# Altium schematic symbol library AliPadash.SchLib: 1117 symbols (part 1 of 6)
Pins are listed as number, name and electrical type; pins without a type are passive.

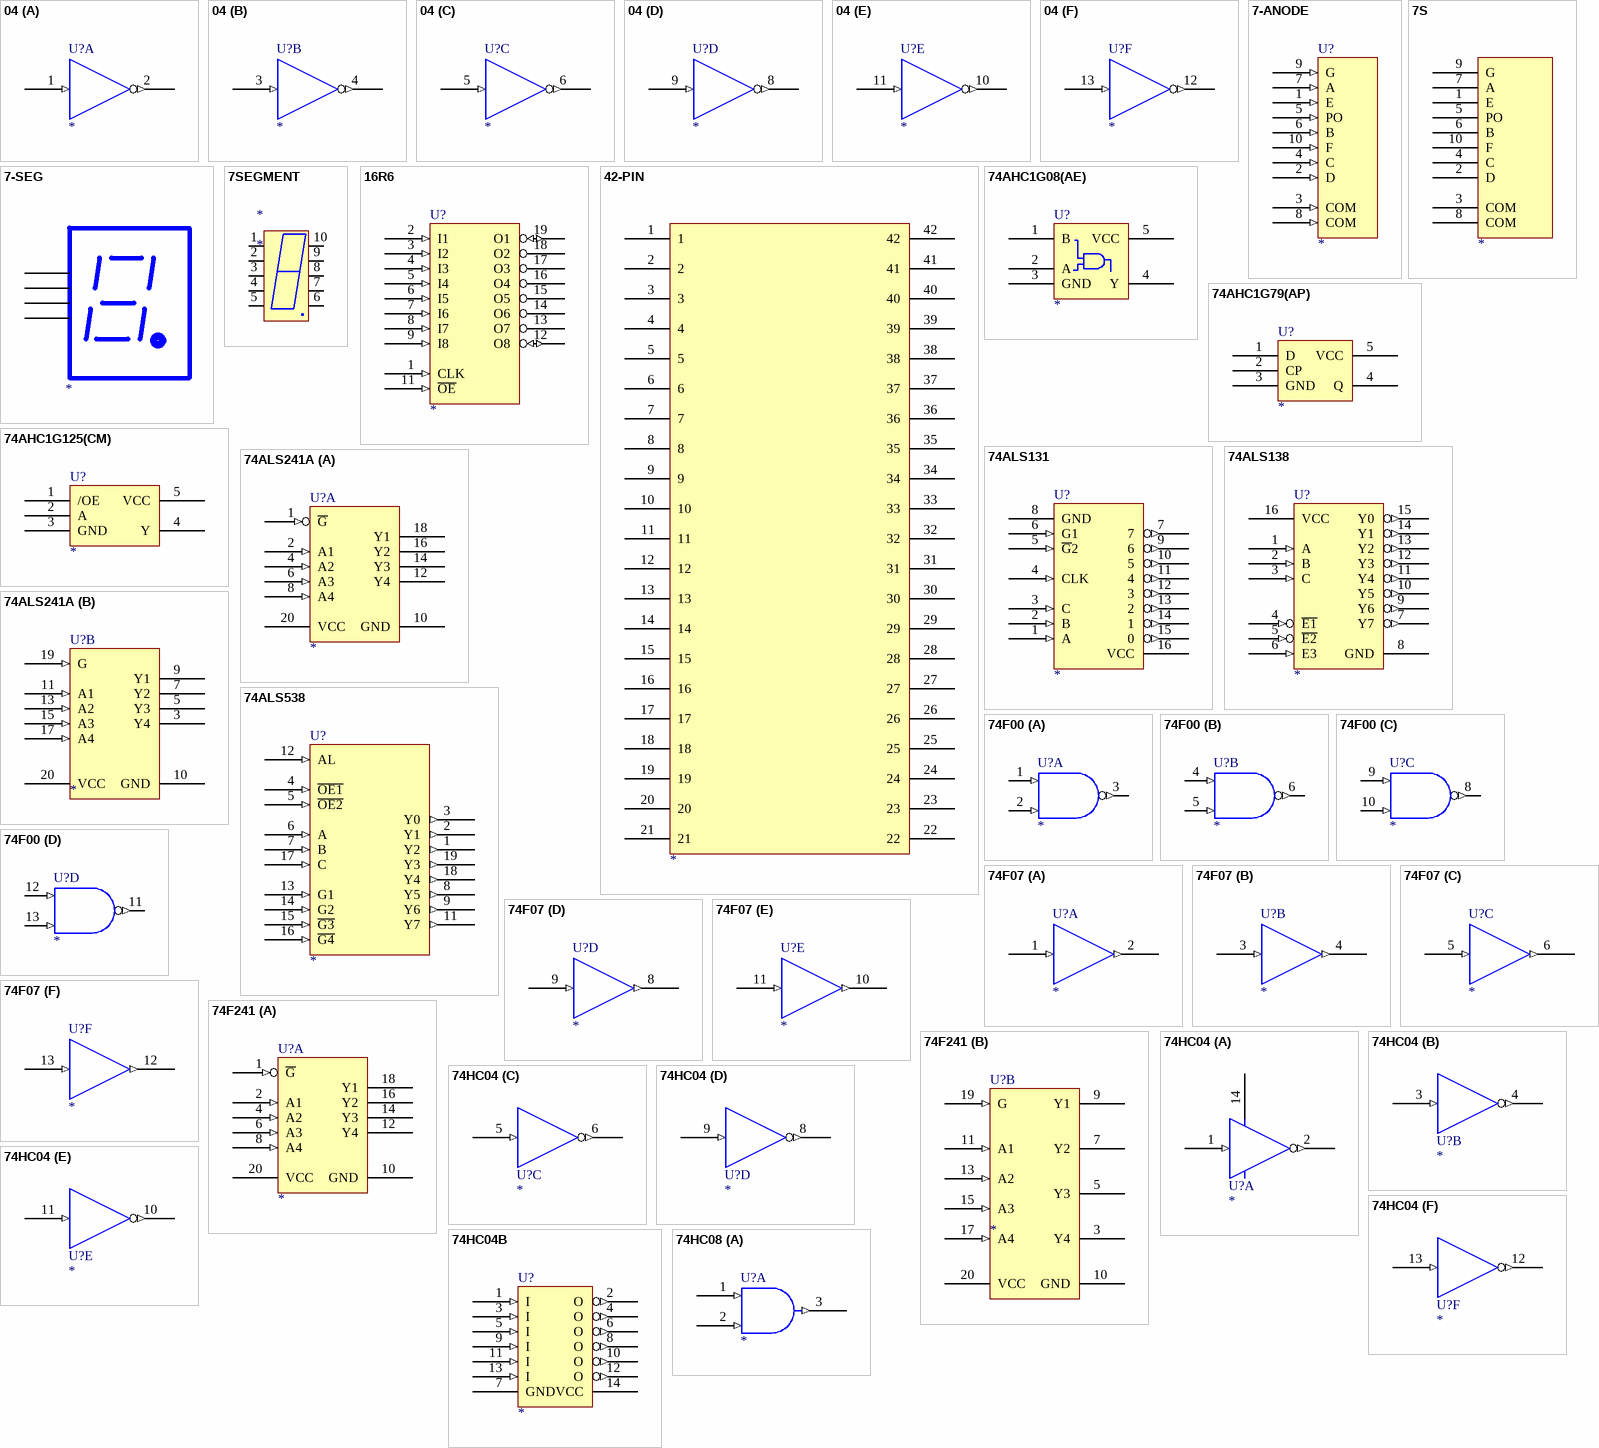
[diagram p0: symbols 04 to 74HC08]

## 04
designator U?
footprint SO-14
footprint DIP14
part A pins: 1 I (in), 2 O (out), 7 GND (power) hidden to GND, 14 VCC (power) hidden to VCC
part B pins: 3 I (in), 4 O (out), 7 GND (power) hidden to GND, 14 VCC (power) hidden to VCC
part C pins: 5 I (in), 6 O (out), 7 GND (power) hidden to GND, 14 VCC (power) hidden to VCC
part D pins: 7 GND (power) hidden to GND, 8 O (out), 9 I (in), 14 VCC (power) hidden to VCC
part E pins: 7 GND (power) hidden to GND, 10 O (out), 11 I (in), 14 VCC (power) hidden to VCC
part F pins: 7 GND (power) hidden to GND, 12 O (out), 13 I (in), 14 VCC (power) hidden to VCC
1 alternate drawing of the same symbol

## 7-ANODE
designator U?
pins: 1 E (in), 2 D (in), 3 COM (in), 4 C (in), 5 PO (in), 6 B (in), 7 A (in), 8 COM (in), 9 G (in), 10 F (in)

## 7-SEG
designator ?
pins: ?1, ?2, ?3, ?4

## 7S
designator ?
SS?
pins: 1 E, 2 D, 3 COM, 4 C, 5 PO, 6 B, 7 A, 8 COM, 9 G, 10 F

## 7SEGMENT
designator *
footprint 7SEGMENT
pins: 1, 2, 3, 4, 5, 6, 7, 8, 9, 10

## 16R6
designator U?
footprint DIP20
pins: 1 CLK (in), 2 I1 (in), 3 I2 (in), 4 I3 (in), 5 I4 (in), 6 I5 (in), 7 I6 (in), 8 I7 (in), 9 I8 (in), 10 GND (power) hidden to GND, 11 ~{OE} (in), 12 O8 (io), 13 O7 (hiz), 14 O6 (hiz), 15 O5 (hiz), 16 O4 (hiz), 17 O3 (hiz), 18 O2 (hiz), 19 O1 (io), 20 VCC (power) hidden to VCC

## 42-PIN
designator ?
pins: 1, 2, 3, 4, 5, 6, 7, 8, 9, 10, 11, 12, 13, 14, 15, 16, 17, 18, 19, 20, 21, 22, 23, 24, 25, 26, 27, 28, 29, 30, 31, 32, 33, 34, 35, 36, 37, 38, 39, 40, 41, 42

## 74AHC1G08(AE)
designator U?
footprint SOT353
pins: 1 B, 2 A, 3 GND, 4 Y, 5 VCC

## 74AHC1G79(AP)
designator U?
footprint SOT353
pins: 1 D, 2 CP, 3 GND, 4 Q, 5 VCC

## 74AHC1G125(CM)
designator U?
footprint SOT353
pins: 1 /OE, 2 A, 3 GND, 4 Y, 5 VCC

## 74ALS131
designator U?
footprint DIP16
pins: 1 A (in), 2 B (in), 3 C (in), 4 CLK (in), 5 ~{G}2 (in), 6 G1 (in), 7 (out), 8 GND (power), 9 6 (out), 10 5 (out), 11 4 (out), 12 3 (out), 13 2 (out), 14 1 (out), 15 0 (out), 16 VCC (power)

## 74ALS138
designator U?
footprint DIP16
pins: 1 A (in), 2 B (in), 3 C (in), 4 ~{E1} (in), 5 ~{E2} (in), 6 E3 (in), 7 Y7 (out), 8 GND (power), 9 Y6 (out), 10 Y5 (out), 11 Y4 (out), 12 Y3 (out), 13 Y2 (out), 14 Y1 (out), 15 Y0 (out), 16 VCC (power)

## 74ALS241A
designator U?
OCTAL BUF AND LIN DRV 3SO
footprint DIP20
footprint SOICW20
part A pins: 1 ~{G} (in), 2 A1 (in), 4 A2 (in), 6 A3 (in), 8 A4 (in), 10 GND (power), 12 Y4 (hiz), 14 Y3 (hiz), 16 Y2 (hiz), 18 Y1 (hiz), 20 VCC (power)
part B pins: 3 Y4 (hiz), 5 Y3 (hiz), 7 Y2 (hiz), 9 Y1 (hiz), 10 GND (power), 11 A1 (in), 13 A2 (in), 15 A3 (in), 17 A4 (in), 19 G (in), 20 VCC (power)
1 alternate drawing of the same symbol

## 74ALS538
designator U?
footprint DIP20
pins: 1 Y2 (out), 2 Y1 (out), 3 Y0 (out), 4 ~{OE1} (in), 5 ~{OE2} (in), 6 A (in), 7 B (in), 8 Y5 (out), 9 Y6 (out), 10 GND (power) hidden to GND, 11 Y7 (out), 12 AL (in), 13 G1 (in), 14 G2 (in), 15 ~{G3} (in), 16 ~{G4} (in), 17 C (in), 18 Y4 (out), 19 Y3 (out), 20 VCC (power) hidden to VCC

## 74F00
designator U?
Quad 2-Input Positive-NAND Gate
footprint DIP-14
simulation model 74F00 (SIMCODE)
part A pins: 1 A (in), 2 B (in), 3 Y (out), 7 GND (power) hidden to GND, 14 VCC (power) hidden to VCC
part B pins: 4 A (in), 5 B (in), 6 Y (out), 7 GND (power) hidden to GND, 14 VCC (power) hidden to VCC
part C pins: 7 GND (power) hidden to GND, 8 Y (out), 9 A (in), 10 B (in), 14 VCC (power) hidden to VCC
part D pins: 7 GND (power) hidden to GND, 11 Y (out), 12 A (in), 13 B (in), 14 VCC (power) hidden to VCC
1 alternate drawing of the same symbol

## 74F07
designator U?
footprint SO-14
part A pins: 1 I (in), 2 O (out), 7 GND hidden to GND, 14 VCC hidden to VCC
part B pins: 3 I (in), 4 O (out), 7 GND hidden to GND, 14 VCC hidden to VCC
part C pins: 5 I (in), 6 O (out), 7 GND hidden to GND, 14 VCC hidden to VCC
part D pins: 7 GND hidden to GND, 8 O (out), 9 I (in), 14 VCC hidden to VCC
part E pins: 7 GND hidden to GND, 10 O (out), 11 I (in), 14 VCC hidden to VCC
part F pins: 7 GND hidden to GND, 12 O (out), 13 I (in), 14 VCC hidden to VCC

## 74F241
designator U?
OCTAL BUF AND LIN DRV 3SO
footprint SOICW20
footprint DIP20
part A pins: 1 ~{G} (in), 2 A1 (in), 4 A2 (in), 6 A3 (in), 8 A4 (in), 10 GND (power), 12 Y4 (hiz), 14 Y3 (hiz), 16 Y2 (hiz), 18 Y1 (hiz), 20 VCC (power)
part B pins: 3 Y4 (hiz), 5 Y3 (hiz), 7 Y2 (hiz), 9 Y1 (hiz), 10 GND (power), 11 A1 (in), 13 A2 (in), 15 A3 (in), 17 A4 (in), 19 G (in), 20 VCC (power)
1 alternate drawing of the same symbol

## 74HC04
designator U?
footprint DIP14
part A pins: 1 I (in), 2 O (out), 7 GND (power) hidden to GND, 14 VCC (power)
part B pins: 3 I (in), 4 O (out), 7 GND (power) hidden to GND, 14 VCC (power) hidden to VCC
part C pins: 5 I (in), 6 O (out), 7 GND (power) hidden to GND, 14 VCC (power) hidden to VCC
part D pins: 7 GND (power) hidden to GND, 8 O (out), 9 I (in), 14 VCC (power) hidden to VCC
part E pins: 7 GND (power) hidden to GND, 10 O (out), 11 I (in), 14 VCC (power) hidden to VCC
part F pins: 7 GND (power) hidden to GND, 12 O (out), 13 I (in), 14 VCC (power) hidden to VCC
1 alternate drawing of the same symbol

## 74HC04B
designator U?
footprint SO-14
pins: 1 I (in), 2 O (out), 3 I (in), 4 O (out), 5 I (in), 6 O (out), 7 GND (power), 8 O (out), 9 I (in), 10 O (out), 11 I (in), 12 O (out), 13 I (in), 14 VCC (power)
1 alternate drawing of the same symbol

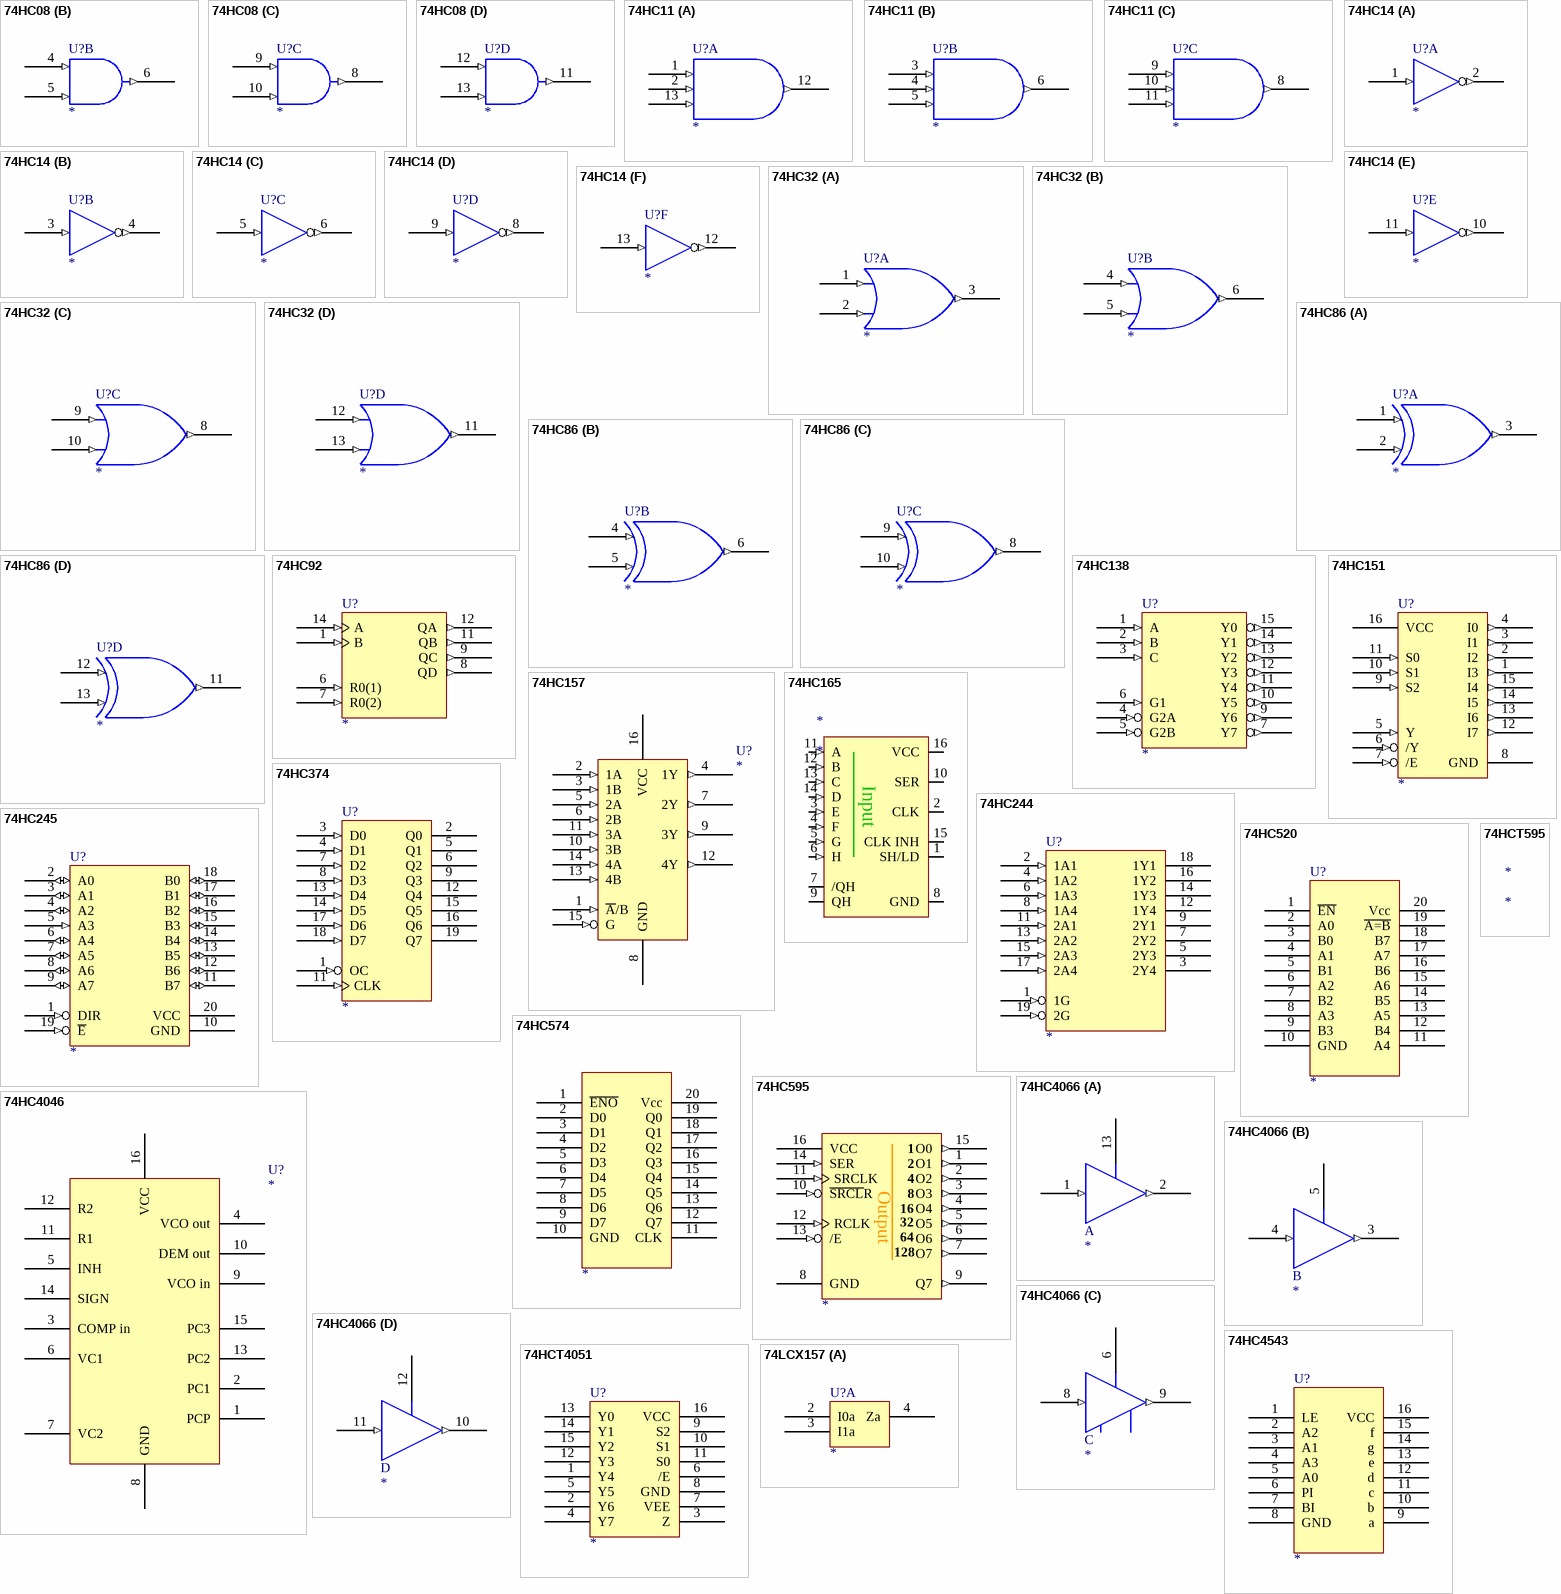
[diagram p1: symbols 74HC08 to 74LCX157]

## 74HC08
designator U?
part A pins: 1 I0 (in), 2 I1 (in), 3 O (out), 7 GND (power) hidden to GND, 14 VCC (power) hidden to VCC
part B pins: 4 I0 (in), 5 I1 (in), 6 O (out), 7 GND (power) hidden to GND, 14 VCC (power) hidden to VCC
part C pins: 7 GND (power) hidden to GND, 8 O (out), 9 I0 (in), 10 I1 (in), 14 VCC (power) hidden to VCC
part D pins: 7 GND (power) hidden to GND, 11 O (out), 12 I0 (in), 13 I1 (in), 14 VCC (power) hidden to VCC
1 alternate drawing of the same symbol

## 74HC11
designator U?
part A pins: 1 I0 (in), 2 I1 (in), 7 GND (power) hidden to GND, 12 O (out), 13 I2 (in), 14 VCC (power) hidden to VCC
part B pins: 3 I0 (in), 4 I1 (in), 5 I2 (in), 6 O (out), 7 GND (power) hidden to GND, 14 VCC (power) hidden to VCC
part C pins: 7 GND (power) hidden to GND, 8 O (out), 9 I0 (in), 10 I1 (in), 11 I2 (in), 14 VCC (power) hidden to VCC
1 alternate drawing of the same symbol

## 74HC14
designator U?
footprint DIP14
part A pins: 1 I (in), 2 O (out), 7 GND (power) hidden to GND, 14 VCC (power) hidden to VCC
part B pins: 3 I (in), 4 O (out), 7 GND (power) hidden to GND, 14 VCC (power) hidden to VCC
part C pins: 5 I (in), 6 O (out), 7 GND (power) hidden to GND, 14 VCC (power) hidden to VCC
part D pins: 7 GND (power) hidden to GND, 8 O (out), 9 I (in), 14 VCC (power) hidden to VCC
part E pins: 7 GND (power) hidden to GND, 10 O (out), 11 I (in), 14 VCC (power) hidden to VCC
part F pins: 7 GND (power) hidden to GND, 12 O (out), 13 I (in), 14 VCC (power) hidden to VCC
1 alternate drawing of the same symbol

## 74HC32
designator U?
part A pins: 1 I0 (in), 2 I1 (in), 3 O (out), 7 GND (power) hidden to GND, 14 VCC (power) hidden to VCC
part B pins: 4 I0 (in), 5 I1 (in), 6 O (out), 7 GND (power) hidden to GND, 14 VCC (power) hidden to VCC
part C pins: 7 GND (power) hidden to GND, 8 O (out), 9 I0 (in), 10 I1 (in), 14 VCC (power) hidden to VCC
part D pins: 7 GND (power) hidden to GND, 11 O (out), 12 I0 (in), 13 I1 (in), 14 VCC (power) hidden to VCC
1 alternate drawing of the same symbol

## 74HC86
designator U?
part A pins: 1 I0 (in), 2 I1 (in), 3 O (out), 7 GND (power) hidden to GND, 14 VCC (power) hidden to VCC
part B pins: 4 I0 (in), 5 I1 (in), 6 O (out), 7 GND (power) hidden to GND, 14 VCC (power) hidden to VCC
part C pins: 7 GND (power) hidden to GND, 8 O (out), 9 I0 (in), 10 I1 (in), 14 VCC (power) hidden to VCC
part D pins: 7 GND (power) hidden to GND, 11 O (out), 12 I0 (in), 13 I1 (in), 14 VCC (power) hidden to VCC
1 alternate drawing of the same symbol

## 74HC92
designator U?
pins: 1 B (in), 5 VCC (power) hidden to VCC, 6 R0(1) (in), 7 R0(2) (in), 8 QD (out), 9 QC (out), 10 GND (power) hidden to GND, 11 QB (out), 12 QA (out), 14 A (in)

## 74HC138
designator U?
pins: 1 A (in), 2 B (in), 3 C (in), 4 G2A (in), 5 G2B (in), 6 G1 (in), 7 Y7 (out), 8 GND (power) hidden to GND, 9 Y6 (out), 10 Y5 (out), 11 Y4 (out), 12 Y3 (out), 13 Y2 (out), 14 Y1 (out), 15 Y0 (out), 16 VCC (power) hidden to VCC

## 74HC151
designator U?
footprint SO-16
pins: 1 I3 (out), 2 I2 (out), 3 I1 (out), 4 I0 (out), 5 Y (in), 6 /Y (in), 7 /E (in), 8 GND (power), 9 S2 (in), 10 S1 (in), 11 S0 (in), 12 I7 (out), 13 I6 (out), 14 I5 (out), 15 I4 (out), 16 VCC (power)

## 74HC157
designator U?
pins: 1 ~{A}/B (in), 2 1A (in), 3 1B (in), 4 1Y (out), 5 2A (in), 6 2B (in), 7 2Y (out), 8 GND (power), 9 3Y (out), 10 3B (in), 11 3A (in), 12 4Y (out), 13 4B (in), 14 4A (in), 15 G (in), 16 VCC (power)

## 74HC165
designator *
footprint SO-16
pins: 1 SH/LD, 2 CLK, 3 E (in), 4 F (in), 5 G (in), 6 H (in), 7 /QH, 8 GND, 9 QH, 10 SER, 11 A (in), 12 B (in), 13 C (in), 14 D (in), 15 CLK INH, 16 VCC
text: Input

## 74HC244
designator U?
pins: 1 1G (in), 2 1A1 (in), 3 2Y4 (hiz), 4 1A2 (in), 5 2Y3 (hiz), 6 1A3 (in), 7 2Y2 (hiz), 8 1A4 (in), 9 2Y1 (hiz), 10 GND (power) hidden to GND, 11 2A1 (in), 12 1Y4 (hiz), 13 2A2 (in), 14 1Y3 (hiz), 15 2A3 (in), 16 1Y2 (hiz), 17 2A4 (in), 18 1Y1 (hiz), 19 2G (in), 20 VCC (power) hidden to VCC

## 74HC245
designator U?
pins: 1 DIR (in), 2 A0 (io), 3 A1 (io), 4 A2 (io), 5 A3 (in), 6 A4 (io), 7 A5 (io), 8 A6 (io), 9 A7 (io), 10 GND, 11 B7 (io), 12 B6 (io), 13 B5 (io), 14 B4 (io), 15 B3 (io), 16 B2 (io), 17 B1 (io), 18 B0 (io), 19 ~{E} (in), 20 VCC

## 74HC374
designator U?
pins: 1 OC (in), 2 Q0 (hiz), 3 D0 (in), 4 D1 (in), 5 Q1 (hiz), 6 Q2 (hiz), 7 D2 (in), 8 D3 (in), 9 Q3 (hiz), 10 GND (power) hidden to GND, 11 CLK (in), 12 Q4 (hiz), 13 D4 (in), 14 D5 (in), 15 Q5 (hiz), 16 Q6 (hiz), 17 D6 (in), 18 D7 (in), 19 Q7 (hiz), 20 VCC (power) hidden to VCC

## 74HC520
designator U?
pins: 1 ~{EN}, 2 A0, 3 B0, 4 A1, 5 B1, 6 A2, 7 B2, 8 A3, 9 B3, 10 GND, 11 A4, 12 B4, 13 A5, 14 B5, 15 A6, 16 B6, 17 A7, 18 B7, 19 ~{A=B}, 20 Vcc

## 74HC574
designator ?
pins: 1 ~{ENO}, 2 D0, 3 D1, 4 D2, 5 D3, 6 D4, 7 D5, 8 D6, 9 D7, 10 GND, 11 CLK, 12 Q7, 13 Q6, 14 Q5, 15 Q4, 16 Q3, 17 Q2, 18 Q1, 19 Q0, 20 Vcc

## 74HC595
designator ?
footprint so-16
pins: 1 O1 (out), 2 O2 (out), 3 O3 (out), 4 O4 (out), 5 O5 (out), 6 O6 (out), 7 O7 (out), 8 GND (power), 9 Q7 (out), 10 ~{SRCL}R (in), 11 SRCLK (in), 12 RCLK (in), 13 /E (in), 14 SER (in), 15 O0 (out), 16 VCC (power)
text: Output; 32; 64; 128

## 74HC4046
designator U?
footprint DIP16
pins: 1 PCP, 2 PC1, 3 COMP in, 4 VCO out, 5 INH, 6 VC1, 7 VC2, 8 GND (power), 9 VCO in, 10 DEM out, 11 R1, 12 R2, 13 PC2, 14 SIGN, 15 PC3, 16 VCC (power)

## 74HC4066
designator ?
part A pins: 1 I (in), 2 O (out), 7 GND hidden to GND, 13 X1, 14 VCC hidden to VCC
part B pins: 3 O (out), 4 I (in), 5, 7 GND hidden to GND, 14 VCC hidden to VCC
part C pins: 6, 7 hidden, 8 (in), 9 (out), 14 hidden
part D pins: 7 GND hidden to GND, 10 O (out), 11 I (in), 12, 14 VCC hidden to VCC

## 74HC4543
designator U?
pins: 1 LE, 2 A2, 3 A1, 4 A3, 5 A0, 6 PI, 7 BI, 8 GND (power), 9 a, 10 b, 11 c, 12 d, 13 e, 14 g, 15 f, 16 VCC (power)

## 74HCT595
designator *

## 74HCT4051
designator U?
footprint SO-16
pins: 1 Y4, 2 Y6, 3 Z, 4 Y7, 5 Y5, 6 /E, 7 VEE, 8 GND, 9 S2, 10 S1, 11 S0, 12 Y3, 13 Y0, 14 Y1, 15 Y2, 16 VCC

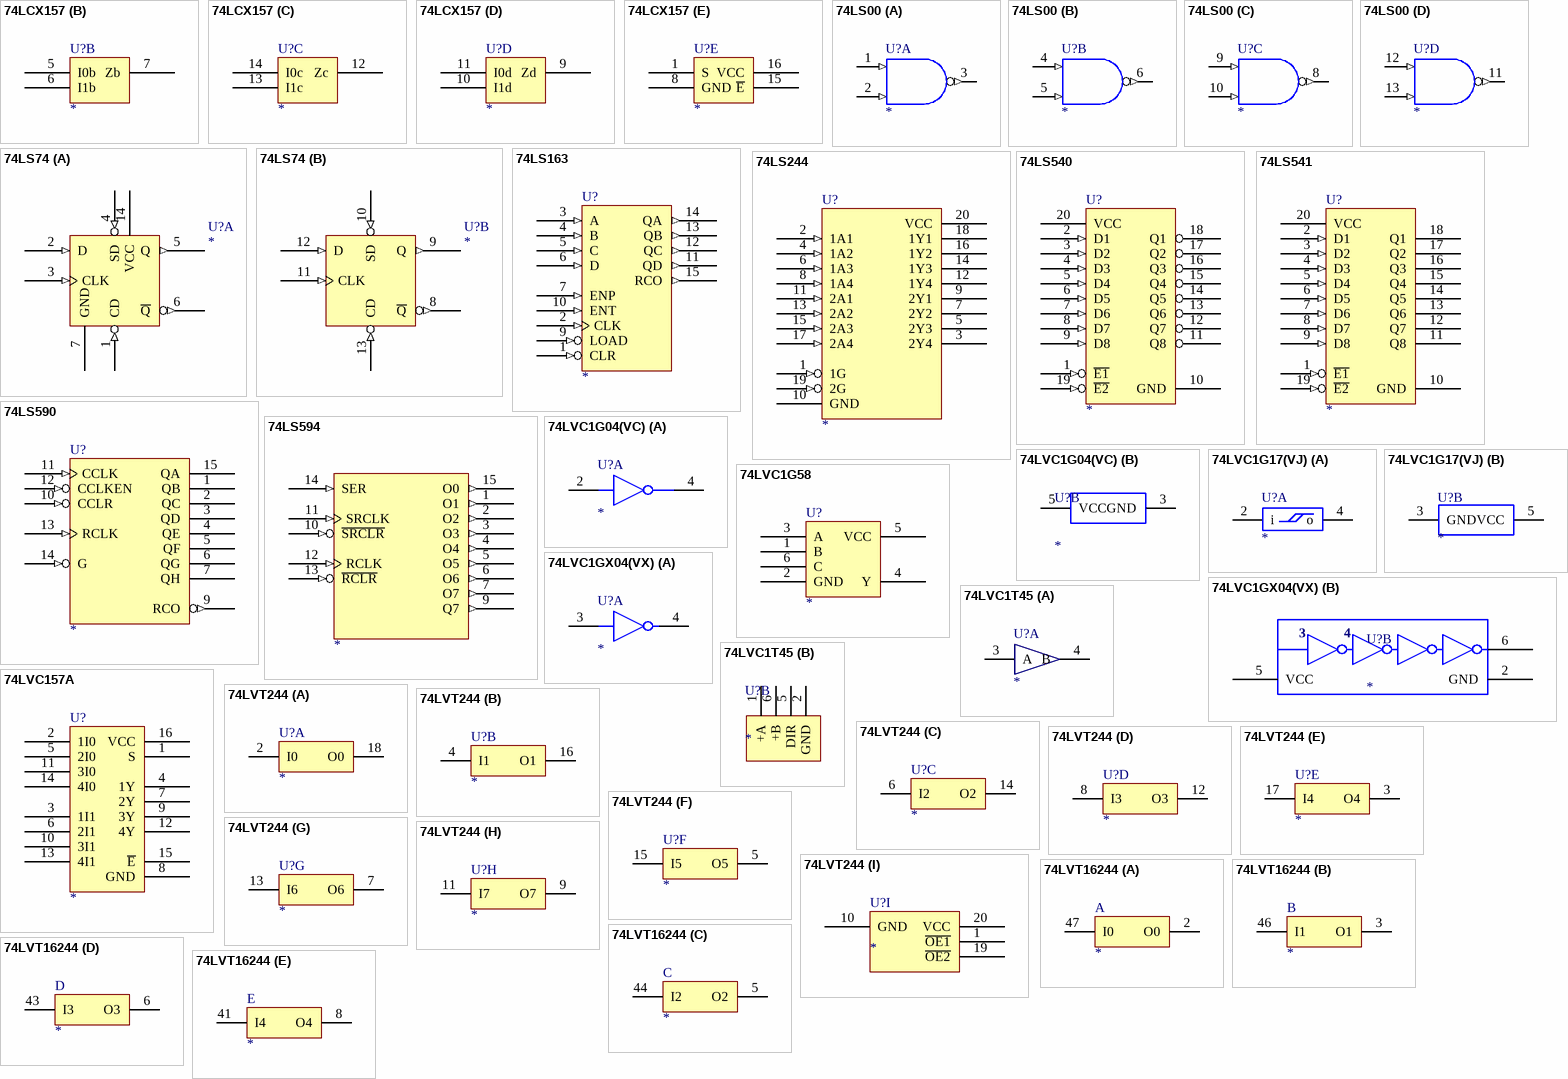
[diagram p2: symbols 74LCX157 to 74LVT16244]

## 74LCX157
designator U?
part A pins: 2 I0a, 3 I1a, 4 Za
part B pins: 5 I0b, 6 I1b, 7 Zb
part C pins: 12 Zc, 13 I1c, 14 I0c
part D pins: 9 Zd, 10 I1d, 11 I0d
part E pins: 1 S, 8 GND, 15 ~{E}, 16 VCC

## 74LS00
designator U?
Quad 2-Input Positive-NAND Gate
footprint DIP-14
simulation model 74LS00 (SIMCODE)
part A pins: 1 A (in), 2 B (in), 3 Y (out), 7 GND (power) hidden to GND, 14 VCC (power) hidden to VCC
part B pins: 4 A (in), 5 B (in), 6 Y (out), 7 GND (power) hidden to GND, 14 VCC (power) hidden to VCC
part C pins: 7 GND (power) hidden to GND, 8 Y (out), 9 A (in), 10 B (in), 14 VCC (power) hidden to VCC
part D pins: 7 GND (power) hidden to GND, 11 Y (out), 12 A (in), 13 B (in), 14 VCC (power) hidden to VCC
1 alternate drawing of the same symbol

## 74LS74
designator U?
footprint DIP14
part A pins: 1 CD (in), 2 D (in), 3 CLK (in), 4 SD (in), 5 Q (out), 6 ~{Q} (out), 7 GND (power), 14 VCC (power)
part B pins: 7 GND (power) hidden to GND, 8 ~{Q} (out), 9 Q (out), 10 SD (in), 11 CLK (in), 12 D (in), 13 CD (in), 14 VCC (power) hidden to VCC

## 74LS163
designator U?
pins: 1 CLR (in), 2 CLK (in), 3 A (in), 4 B (in), 5 C (in), 6 D (in), 7 ENP (in), 8 GND (power) hidden to GND, 9 LOAD (in), 10 ENT (in), 11 QD (out), 12 QC (out), 13 QB (out), 14 QA (out), 15 RCO (out), 16 VCC (power) hidden to VCC

## 74LS244
designator U?
footprint SO-20WB
pins: 1 1G (in), 2 1A1 (in), 3 2Y4 (hiz), 4 1A2 (in), 5 2Y3 (hiz), 6 1A3 (in), 7 2Y2 (hiz), 8 1A4 (in), 9 2Y1 (hiz), 10 GND (power), 11 2A1 (in), 12 1Y4 (hiz), 13 2A2 (in), 14 1Y3 (hiz), 15 2A3 (in), 16 1Y2 (hiz), 17 2A4 (in), 18 1Y1 (hiz), 19 2G (in), 20 VCC (power)

## 74LS540
designator U?
footprint DIP20
pins: 1 ~{E1} (in), 2 D1 (in), 3 D2 (in), 4 D3 (in), 5 D4 (in), 6 D5 (in), 7 D6 (in), 8 D7 (in), 9 D8 (in), 10 GND (power), 11 Q8 (hiz), 12 Q7 (hiz), 13 Q6 (hiz), 14 Q5 (hiz), 15 Q4 (hiz), 16 Q3 (hiz), 17 Q2 (hiz), 18 Q1 (hiz), 19 ~{E2} (in), 20 VCC (power)

## 74LS541
designator U?
footprint DIP20
pins: 1 ~{E1} (in), 2 D1 (in), 3 D2 (in), 4 D3 (in), 5 D4 (in), 6 D5 (in), 7 D6 (in), 8 D7 (in), 9 D8 (in), 10 GND (power), 11 Q8 (hiz), 12 Q7 (hiz), 13 Q6 (hiz), 14 Q5 (hiz), 15 Q4 (hiz), 16 Q3 (hiz), 17 Q2 (hiz), 18 Q1 (hiz), 19 ~{E2} (in), 20 VCC (power)

## 74LS590
designator U?
pins: 1 QB (hiz), 2 QC (hiz), 3 QD (hiz), 4 QE (hiz), 5 QF (hiz), 6 QG (hiz), 7 QH (hiz), 8 GND (power) hidden to GND, 9 RCO (out), 10 CCLR (in), 11 CCLK (in), 12 CCLKEN (in), 13 RCLK (in), 14 G (in), 15 QA (hiz), 16 VCC (power) hidden to VCC

## 74LS594
designator ?
pins: 1 O1 (out), 2 O2 (out), 3 O3 (out), 4 O4 (out), 5 O5 (out), 6 O6 (out), 7 O7 (out), 9 Q7 (out), 10 ~{SRCLR} (in), 11 SRCLK (in), 12 RCLK (in), 13 ~{RCLR} (in), 14 SER (in), 15 O0 (out)

## 74LVC1G04(VC)
designator U?
footprint SOT353
part A pins: 2, 4
part B pins: 3 GND, 5 VCC

## 74LVC1G17(VJ)
designator U?
footprint SOT353
part A pins: 2 i, 4 o
part B pins: 3 GND, 5 VCC

## 74LVC1G58
designator U?
footprint SOT363
pins: 1 B, 2 GND, 3 A, 4 Y, 5 VCC, 6 C

## 74LVC1GX04(VX)
designator U?
footprint SOT363
part A pins: 3, 4
part B pins: 2 GND, 5 VCC, 6

## 74LVC1T45
designator U?
footprint SOT363
part A pins: 3 A, 4 B
part B pins: 1 +A, 2 GND, 5 DIR, 6 +B

## 74LVC157A
designator U?
footprint SO-16
pins: 1 S, 2 1I0, 3 1I1, 4 1Y, 5 2I0, 6 2I1, 7 2Y, 8 GND, 9 3Y, 10 3I1, 11 3I0, 12 4Y, 13 4I1, 14 4I0, 15 ~{E}, 16 VCC

## 74LVT244
designator U?
footprint M20B
part A pins: 2 I0, 18 O0
part B pins: 4 I1, 16 O1
part C pins: 6 I2, 14 O2
part D pins: 8 I3, 12 O3
part E pins: 3 O4, 17 I4
part F pins: 5 O5, 15 I5
part G pins: 7 O6, 13 I6
part H pins: 9 O7, 11 I7
part I pins: 1 ~{OE1}, 10 GND, 19 ~{OE2}, 20 VCC

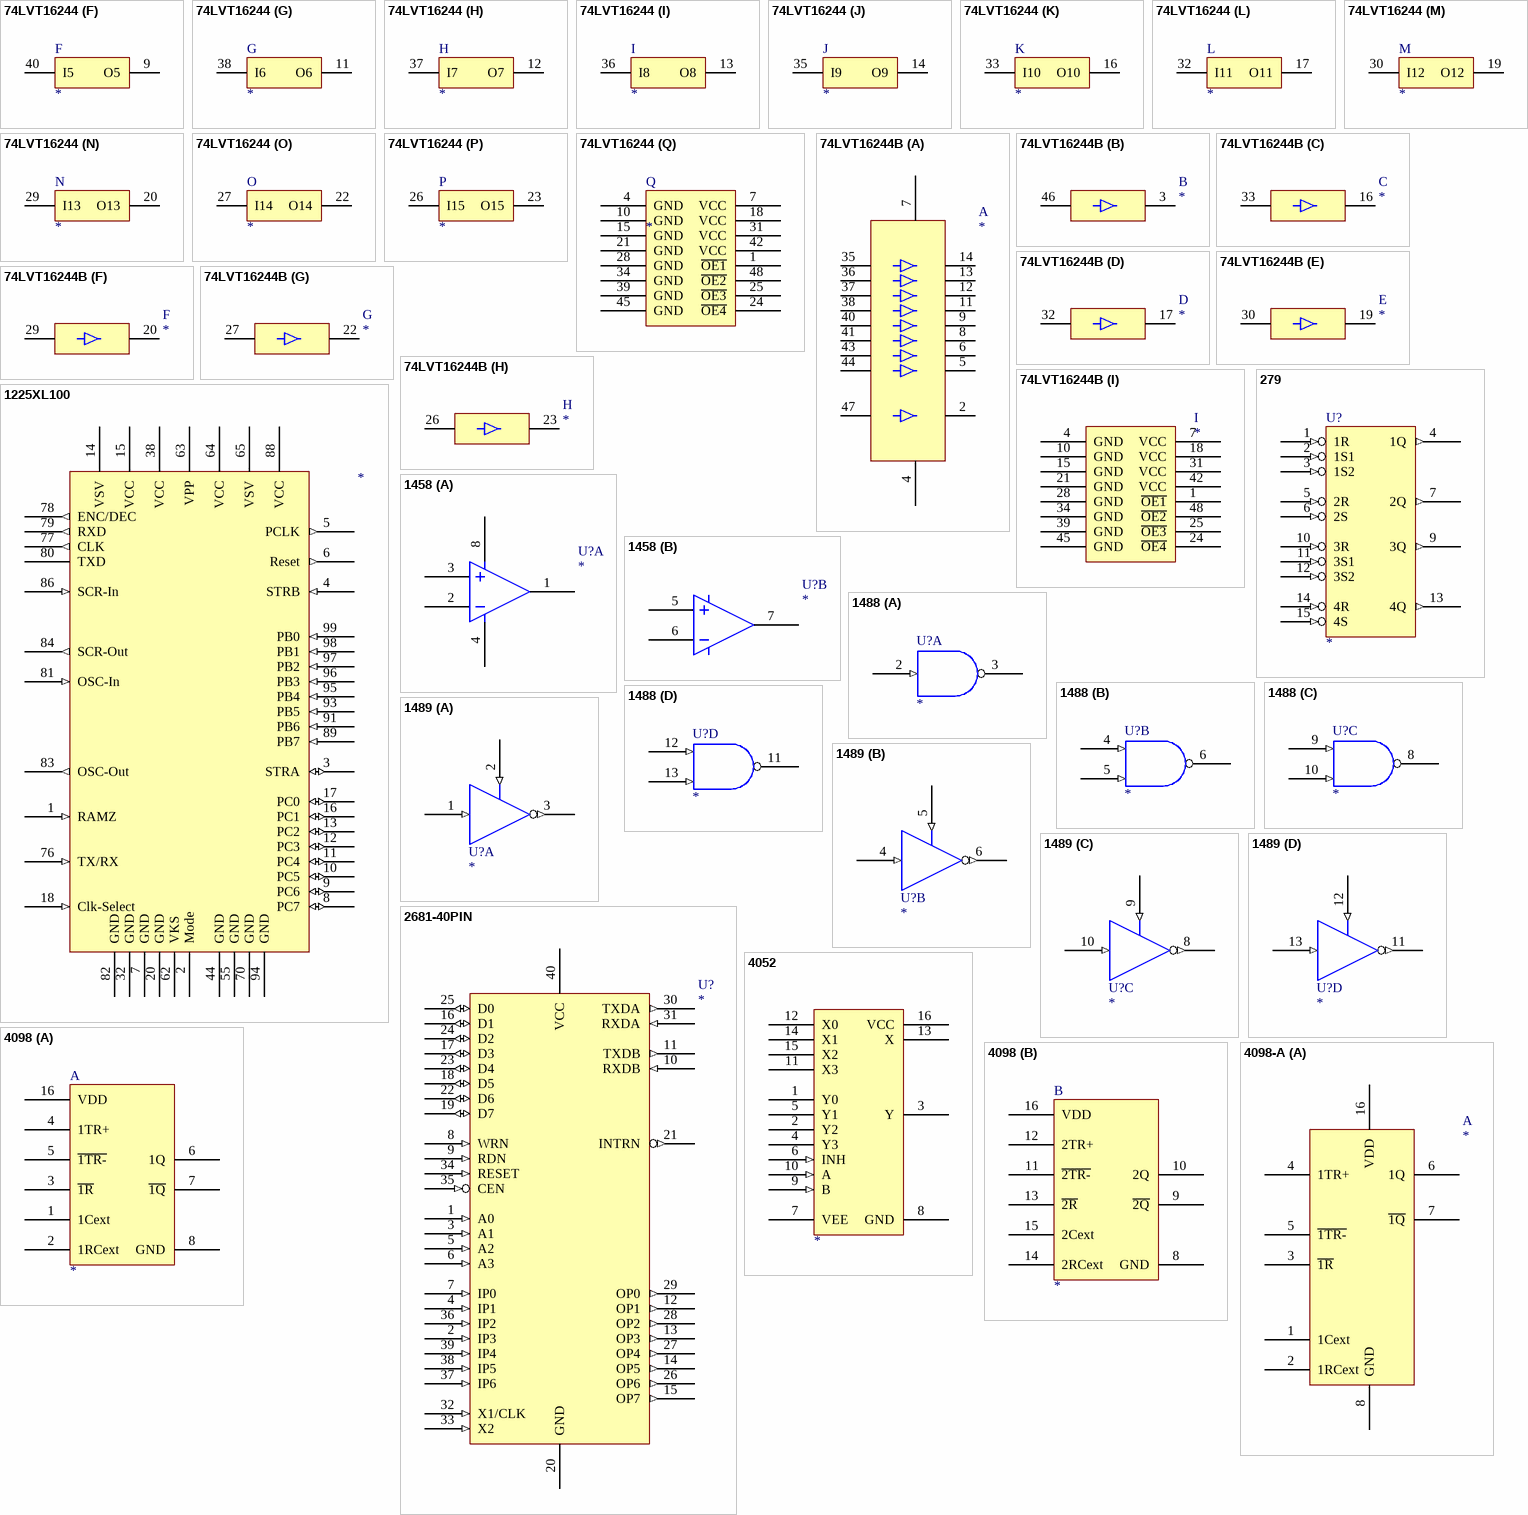
[diagram p3: symbols 74LVT16244 to 4098-A]

## 74LVT16244
designator ?
footprint MS48A
part A pins: 2 O0, 47 I0
part B pins: 3 O1, 46 I1
part C pins: 5 O2, 44 I2
part D pins: 6 O3, 43 I3
part E pins: 8 O4, 41 I4
part F pins: 9 O5, 40 I5
part G pins: 11 O6, 38 I6
part H pins: 12 O7, 37 I7
part I pins: 13 O8, 36 I8
part J pins: 14 O9, 35 I9
part K pins: 16 O10, 33 I10
part L pins: 17 O11, 32 I11
part M pins: 19 O12, 30 I12
part N pins: 20 O13, 29 I13
part O pins: 22 O14, 27 I14
part P pins: 23 O15, 26 I15
part Q pins: 1 ~{OE1}, 4 GND, 7 VCC, 10 GND, 15 GND, 18 VCC, 21 GND, 24 ~{OE4}, 25 ~{OE3}, 28 GND, 31 VCC, 34 GND, 39 GND, 42 VCC, 45 GND, 48 ~{OE2}

## 74LVT16244B
designator ?
footprint MS48A
part A pins: 2 O0, 4 GND, 5 O2, 6 O3, 7 VCC, 8 O4, 9 O5, 11 O6, 12 O7, 13 O8, 14 O9, 35 I9, 36 I8, 37 I7, 38 I6, 40 I5, 41 I4, 43 I3, 44 I2, 47 I0
part B pins: 3 O1, 46 I1
part C pins: 16 O10, 33 I10
part D pins: 17 O11, 32 I11
part E pins: 19 O12, 30 I12
part F pins: 20 O13, 29 I13
part G pins: 22 O14, 27 I14
part H pins: 23 O15, 26 I15
part I pins: 1 ~{OE1}, 4 GND, 7 VCC, 10 GND, 15 GND, 18 VCC, 21 GND, 24 ~{OE4}, 25 ~{OE3}, 28 GND, 31 VCC, 34 GND, 39 GND, 42 VCC, 45 GND, 48 ~{OE2}

## 279
designator U?
pins: 1 1R (in), 2 1S1 (in), 3 1S2 (in), 4 1Q (out), 5 2R (in), 6 2S (in), 7 2Q (out), 8 GND (power) hidden to GND, 9 3Q (out), 10 3R (in), 11 3S1 (in), 12 3S2 (in), 13 4Q (out), 14 4R (in), 15 4S (in), 16 VCC (power) hidden to VCC

## 1225XL100
designator ?
U?
pins: 1 RAMZ (in), 2 Mode (power), 3 STRA (io), 4 STRB (in), 5 PCLK (out), 6 Reset (out), 7 GND (power), 8 PC7 (io), 9 PC6 (io), 10 PC5 (io), 11 PC4 (io), 12 PC3 (io), 13 PC2 (io), 14 VSV (power), 15 VCC (power), 16 PC1 (io), 17 PC0 (io), 18 Clk-Select (in), 20 GND (power), 32 GND (power), 38 VCC (power), 44 GND (power), 55 GND (power), 62 VKS (power), 63 VPP (power), 64 VCC (power), 65 VSV (power), 70 GND (power), 76 TX/RX (in), 77 CLK (out), 78 ENC/DEC (out), 79 RXD (out), 80 TXD, 81 OSC-In (in), 82 GND (power), 83 OSC-Out (out), 84 SCR-Out (out), 86 SCR-In (in), 88 VCC (power), 89 PB7 (in), 91 PB6 (in), 93 PB5 (in), 94 GND (power), 95 PB4 (in), 96 PB3 (in), 97 PB2 (in), 98 PB1 (in), 99 PB0 (in)

## 1458
designator U?
footprint DIP8
footprint SO-8
part A pins: 1, 2, 3, 4, 8
part B pins: 5, 6, 7

## 1488
designator U?
footprint DIP14
part A pins: 1 V- (power) hidden to V-, 2 (in), 3 (oc), 7 GND (power) hidden to GND, 14 V+ (power) hidden to V+
part B pins: 1 V- (power) hidden to V-, 4 (in), 5 (in), 6 (oc), 7 GND (power) hidden to GND, 14 V+ (power) hidden to V+
part C pins: 1 V- (power) hidden to V-, 7 GND (power) hidden to GND, 8 (oc), 9 (in), 10 (in), 14 V+ (power) hidden to V+
part D pins: 1 V- (power) hidden to V-, 7 GND (power) hidden to GND, 11 (oc), 12 (in), 13 (in), 14 V+ (power) hidden to V+

## 1489
designator U?
footprint DIP14
part A pins: 1 I (in), 2 RC (in), 3 O (out), 7 GND (power) hidden to GND, 14 VCC (power) hidden to VCC
part B pins: 4 I (in), 5 RC (in), 6 O (out), 7 GND (power) hidden to GND, 14 VCC (power) hidden to VCC
part C pins: 7 GND (power) hidden to GND, 8 O (out), 9 RC (in), 10 I (in), 14 VCC (power) hidden to VCC
part D pins: 7 GND (power) hidden to GND, 11 O (out), 12 RC (in), 13 I (in), 14 VCC (power) hidden to VCC

## 2681-40PIN
designator U?
footprint DIP40
pins: 1 A0 (in), 2 IP3 (in), 3 A1 (in), 4 IP1 (in), 5 A2 (in), 6 A3 (in), 7 IP0 (in), 8 WRN (in), 9 RDN (in), 10 RXDB (in), 11 TXDB (out), 12 OP1 (out), 13 OP3 (out), 14 OP5 (out), 15 OP7 (out), 16 D1 (io), 17 D3 (io), 18 D5 (io), 19 D7 (io), 20 GND (power), 21 INTRN (out), 22 D6 (io), 23 D4 (io), 24 D2 (io), 25 D0 (io), 26 OP6 (out), 27 OP4 (out), 28 OP2 (out), 29 OP0 (out), 30 TXDA (out), 31 RXDA (in), 32 X1/CLK (in), 33 X2 (in), 34 RESET (in), 35 CEN (in), 36 IP2 (in), 37 IP6 (in), 38 IP5 (in), 39 IP4 (in), 40 VCC (power)

## 4052
designator ?
pins: 1 Y0, 2 Y2, 3 Y, 4 Y3, 5 Y1, 6 INH (in), 7 VEE, 8 GND (power), 9 B (in), 10 A (in), 11 X3, 12 X0, 13 X, 14 X1, 15 X2, 16 VCC (power)

## 4098
designator ?
part A pins: 1 1Cext, 2 1RCext, 3 ~{1R}, 4 1TR+, 5 ~{1TR-}, 6 1Q, 7 ~{1Q}, 8 GND, 16 VDD
part B pins: 8 GND, 9 ~{2Q}, 10 2Q, 11 ~{2TR-}, 12 2TR+, 13 ~{2R}, 14 2RCext, 15 2Cext, 16 VDD

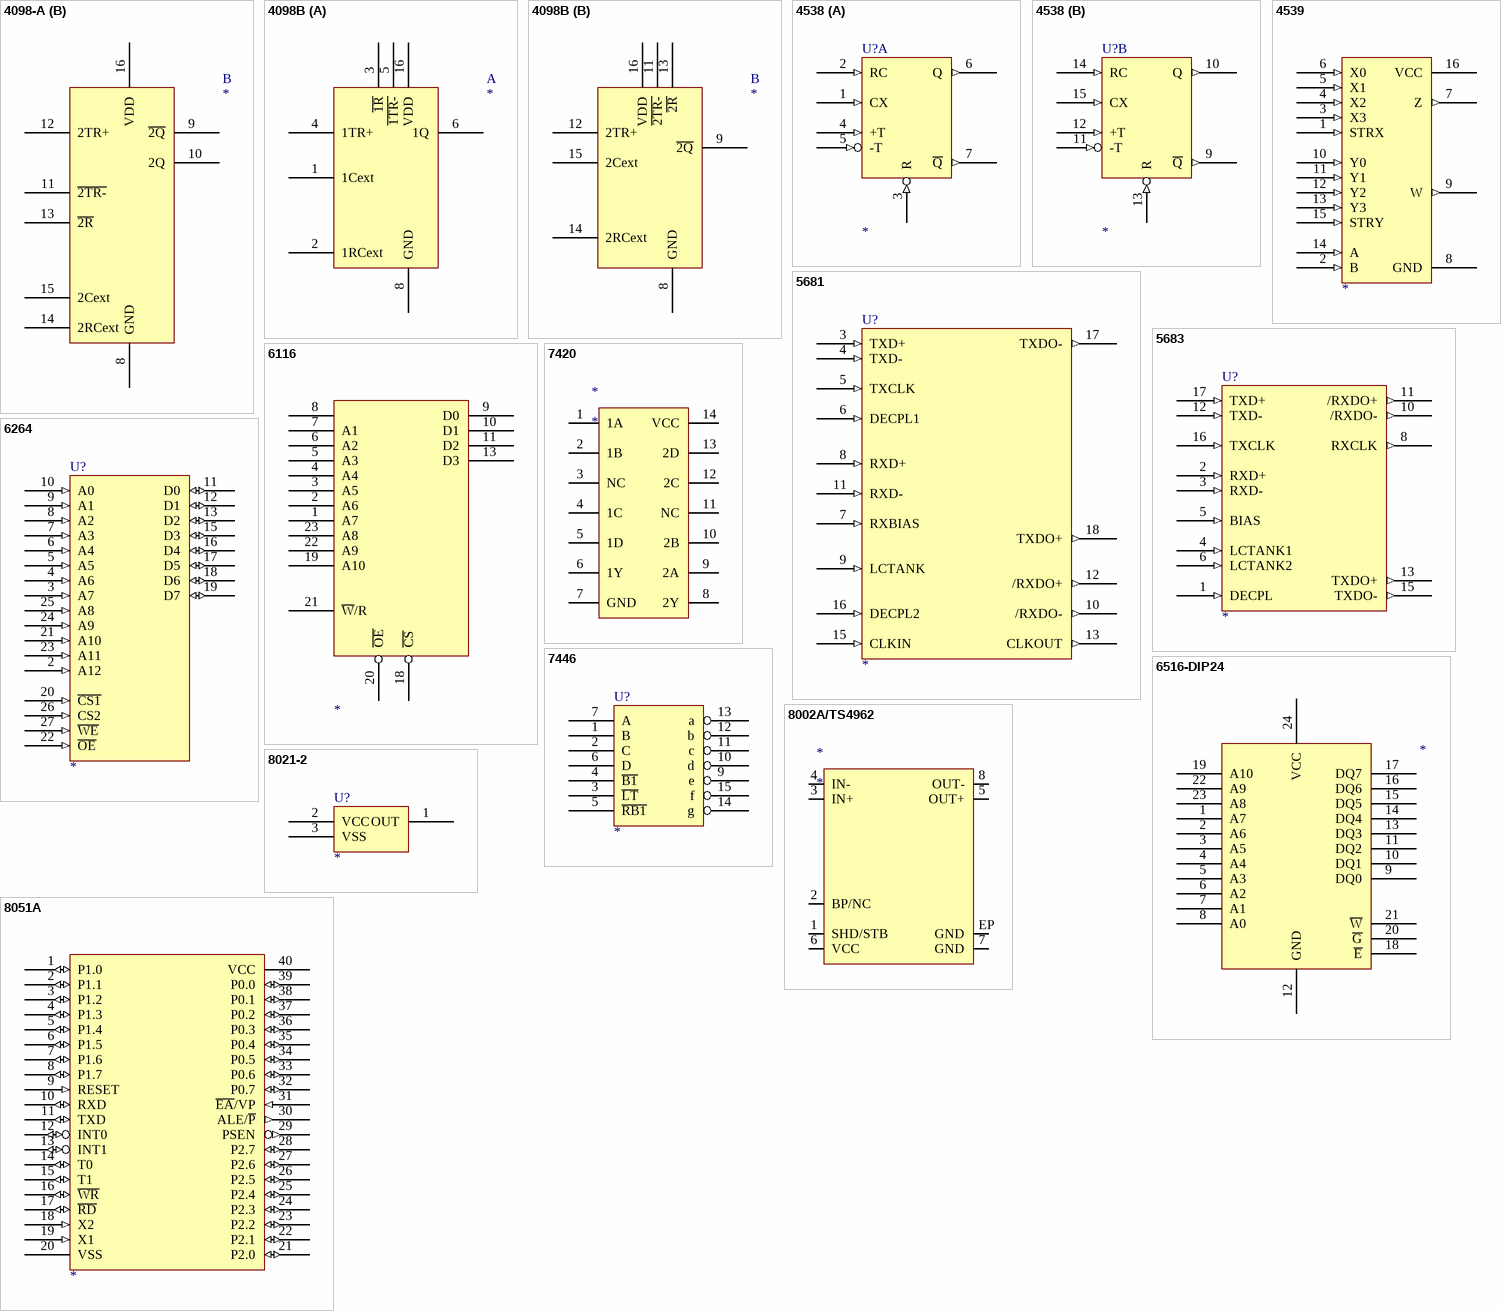
[diagram p4: symbols 4098-A to 8051A]

## 4098-A
designator ?
part A pins: 1 1Cext, 2 1RCext, 3 ~{1R}, 4 1TR+, 5 ~{1TR-}, 6 1Q, 7 ~{1Q}, 8 GND, 16 VDD
part B pins: 8 GND, 9 ~{2Q}, 10 2Q, 11 ~{2TR-}, 12 2TR+, 13 ~{2R}, 14 2RCext, 15 2Cext, 16 VDD

## 4098B
designator ?
part A pins: 1 1Cext, 2 1RCext, 3 ~{1R}, 4 1TR+, 5 ~{1TR-}, 6 1Q, 8 GND, 16 VDD
part B pins: 8 GND, 9 ~{2Q}, 11 ~{2TR-}, 12 2TR+, 13 ~{2R}, 14 2RCext, 15 2Cext, 16 VDD

## 4538
designator U?
part A pins: 1 CX (in), 2 RC (in), 3 R (in), 4 +T (in), 5 -T (in), 6 Q (out), 7 ~{Q} (out), 8 VSS (power) hidden to VSS, 16 VDD (power) hidden to VDD
part B pins: 8 VSS (power) hidden to VSS, 9 ~{Q} (out), 10 Q (out), 11 -T (in), 12 +T (in), 13 R (in), 14 RC (in), 15 CX (in), 16 VDD (power) hidden to VDD

## 4539
designator ?
pins: 1 STRX (in), 2 B (in), 3 X3 (in), 4 X2 (in), 5 X1 (in), 6 X0 (in), 7 Z (out), 8 GND (power), 9 W (out), 10 Y0 (in), 11 Y1 (in), 12 Y2 (in), 13 Y3 (in), 14 A (in), 15 STRY (in), 16 VCC (power)

## 5681
designator U?
pins: 1 GND (power) hidden to GND, 2 GND (power) hidden to GND, 3 TXD+ (in), 4 TXD- (in), 5 TXCLK (in), 6 DECPL1 (in), 7 RXBIAS (in), 8 RXD+ (in), 9 LCTANK (in), 10 /RXDO- (out), 11 RXD- (in), 12 /RXDO+ (out), 13 CLKOUT (out), 14 VEE (power) hidden to VEE, 15 CLKIN (in), 16 DECPL2 (in), 17 TXDO- (out), 18 TXDO+ (out)

## 5683
designator U?
pins: 1 DECPL (in), 2 RXD+ (in), 3 RXD- (in), 4 LCTANK1 (in), 5 BIAS (in), 6 LCTANK2 (in), 7 GND (power) hidden to GND, 8 RXCLK (out), 9 VCC (power) hidden to VCC, 10 /RXDO- (out), 11 /RXDO+ (out), 12 TXD- (in), 13 TXDO+ (out), 14 GND (power) hidden to GND, 15 TXDO- (out), 16 TXCLK (in), 17 TXD+ (in), 18 VCC (power) hidden to VCC

## 6116
designator ?
pins: 1 A7, 2 A6, 3 A5, 4 A4, 5 A3, 6 A2, 7 A1, 8 A0, 9 D0, 10 D1, 11 D2, 13 D3, 18 ~{CS}, 19 A10, 20 ~{OE}, 21 ~{W}/R, 22 A9, 23 A8

## 6264
designator U?
pins: 2 A12 (in), 3 A7 (in), 4 A6 (in), 5 A5 (in), 6 A4 (in), 7 A3 (in), 8 A2 (in), 9 A1 (in), 10 A0 (in), 11 D0 (io), 12 D1 (io), 13 D2 (io), 14 GND (power) hidden to GND, 15 D3 (io), 16 D4 (io), 17 D5 (io), 18 D6 (io), 19 D7 (io), 20 ~{CS1} (in), 21 A10 (in), 22 ~{OE} (in), 23 A11 (in), 24 A9 (in), 25 A8 (in), 26 CS2 (in), 27 ~{WE} (in), 28 VCC (power) hidden to VCC

## 6516-DIP24
designator ?
U?
footprint DIP24
pins: 1 A7, 2 A6, 3 A5, 4 A4, 5 A3, 6 A2, 7 A1, 8 A0, 9 DQ0, 10 DQ1, 11 DQ2, 12 GND (power), 13 DQ3, 14 DQ4, 15 DQ5, 16 DQ6, 17 DQ7, 18 ~{E}, 19 A10, 20 ~{G}, 21 ~{W}, 22 A9, 23 A8, 24 VCC (power)

## 7420
designator *
pins: 1 1A, 2 1B, 3 NC, 4 1C, 5 1D, 6 1Y, 7 GND, 8 2Y, 9 2A, 10 2B, 11 NC, 12 2C, 13 2D, 14 VCC

## 7446
designator U?
footprint DIP16
pins: 1 B, 2 C, 3 ~{LT}, 4 ~{B1}, 5 ~{RB1}, 6 D, 7 A, 8 GND (power) hidden to GND, 9 e (oc), 10 d (oc), 11 c (oc), 12 b (oc), 13 a (oc), 14 g (oc), 15 f (oc), 16 VCC (power) hidden to VCC

## 8002A/TS4962
designator *
footprint SO-8/DFN8 (Footprint not found)
pins: 1 SHD/STB, 2 BP/NC, 3 IN+, 4 IN-, 5 OUT+, 6 VCC, 7 GND, 8 OUT-, EP GND

## 8021-2
designator U?
footprint TO-92
pins: 1 OUT, 2 VCC, 3 VSS

## 8051A
designator ?
pins: 1 P1.0 (io), 2 P1.1 (io), 3 P1.2 (io), 4 P1.3 (io), 5 P1.4 (io), 6 P1.5 (io), 7 P1.6 (io), 8 P1.7 (io), 9 RESET (in), 10 RXD (io), 11 TXD (io), 12 INT0 (io), 13 INT1 (io), 14 T0 (io), 15 T1 (io), 16 ~{WR} (io), 17 ~{RD} (io), 18 X2 (in), 19 X1 (in), 20 VSS (power), 21 P2.0 (io), 22 P2.1 (io), 23 P2.2 (io), 24 P2.3 (io), 25 P2.4 (io), 26 P2.5 (io), 27 P2.6 (io), 28 P2.7 (io), 29 PSEN (out), 30 ALE/~{P} (out), 31 ~{EA}/VP (in), 32 P0.7 (io), 33 P0.6 (io), 34 P0.5 (io), 35 P0.4 (io), 36 P0.3 (io), 37 P0.2 (io), 38 P0.1 (io), 39 P0.0 (io), 40 VCC (power)

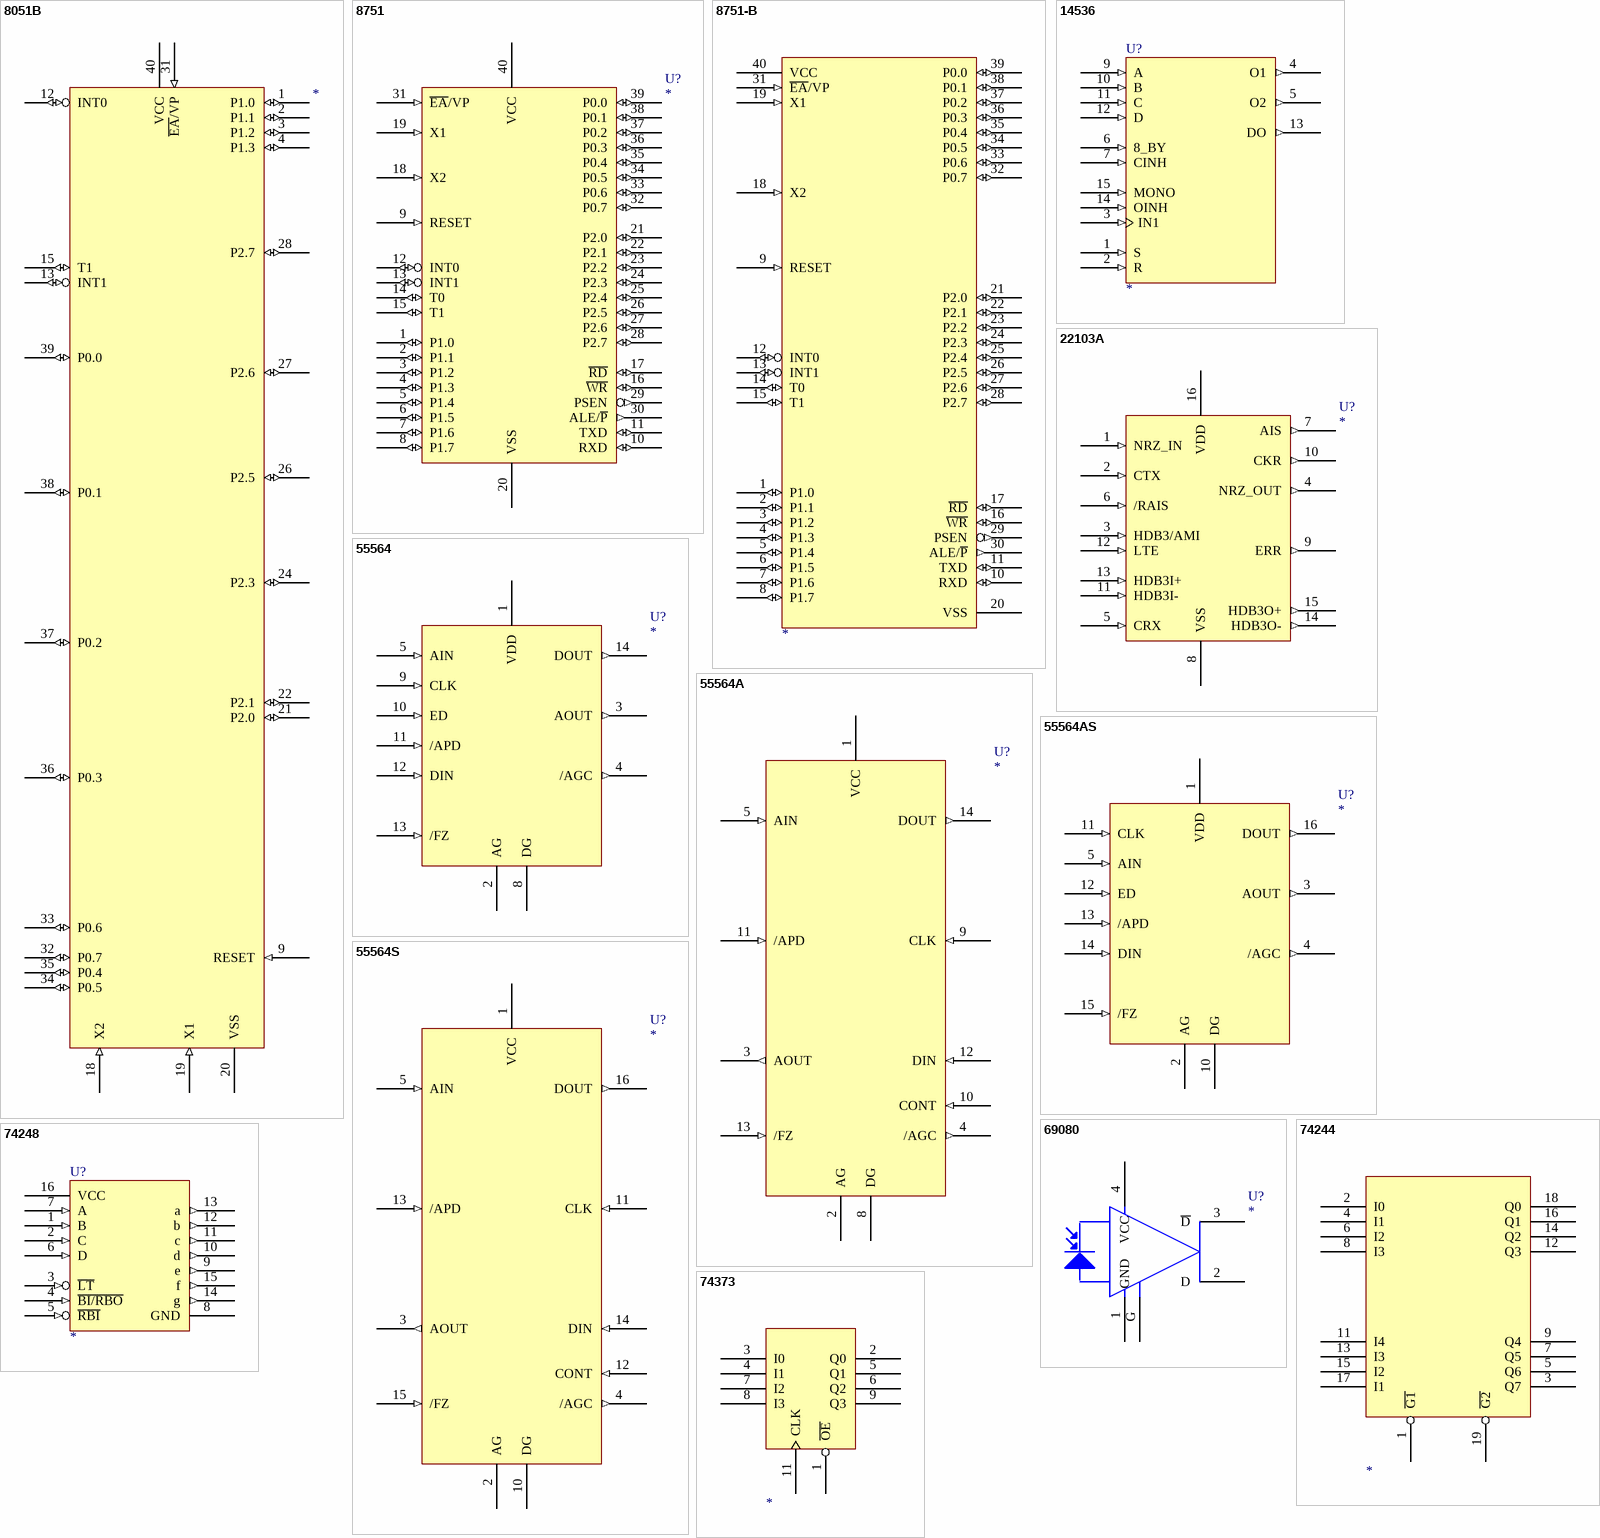
[diagram p5: symbols 8051B to 74373]

## 8051B
designator ?
pins: 1 P1.0 (io), 2 P1.1 (io), 3 P1.2 (io), 4 P1.3 (io), 9 RESET (in), 12 INT0 (io), 13 INT1 (io), 15 T1 (io), 18 X2 (in), 19 X1 (in), 20 VSS (power), 21 P2.0 (io), 22 P2.1 (io), 24 P2.3 (io), 26 P2.5 (io), 27 P2.6 (io), 28 P2.7 (io), 31 ~{EA}/VP (in), 32 P0.7 (io), 33 P0.6 (io), 34 P0.5 (io), 35 P0.4 (io), 36 P0.3 (io), 37 P0.2 (io), 38 P0.1 (io), 39 P0.0 (io), 40 VCC (power)

## 8751
designator U?
pins: 1 P1.0 (io), 2 P1.1 (io), 3 P1.2 (io), 4 P1.3 (io), 5 P1.4 (io), 6 P1.5 (io), 7 P1.6 (io), 8 P1.7 (io), 9 RESET (in), 10 RXD (io), 11 TXD (io), 12 INT0 (io), 13 INT1 (io), 14 T0 (io), 15 T1 (io), 16 ~{WR} (io), 17 ~{RD} (io), 18 X2 (in), 19 X1 (in), 20 VSS (power), 21 P2.0 (io), 22 P2.1 (io), 23 P2.2 (io), 24 P2.3 (io), 25 P2.4 (io), 26 P2.5 (io), 27 P2.6 (io), 28 P2.7 (io), 29 PSEN (out), 30 ALE/~{P} (out), 31 ~{EA}/VP (in), 32 P0.7 (io), 33 P0.6 (io), 34 P0.5 (io), 35 P0.4 (io), 36 P0.3 (io), 37 P0.2 (io), 38 P0.1 (io), 39 P0.0 (io), 40 VCC (power)

## 8751-B
designator ?
pins: 1 P1.0 (io), 2 P1.1 (io), 3 P1.2 (io), 4 P1.3 (io), 5 P1.4 (io), 6 P1.5 (io), 7 P1.6 (io), 8 P1.7 (io), 9 RESET (in), 10 RXD (io), 11 TXD (io), 12 INT0 (io), 13 INT1 (io), 14 T0 (io), 15 T1 (io), 16 ~{WR} (io), 17 ~{RD} (io), 18 X2 (in), 19 X1 (in), 20 VSS (power), 21 P2.0 (io), 22 P2.1 (io), 23 P2.2 (io), 24 P2.3 (io), 25 P2.4 (io), 26 P2.5 (io), 27 P2.6 (io), 28 P2.7 (io), 29 PSEN (out), 30 ALE/~{P} (out), 31 ~{EA}/VP (in), 32 P0.7 (io), 33 P0.6 (io), 34 P0.5 (io), 35 P0.4 (io), 36 P0.3 (io), 37 P0.2 (io), 38 P0.1 (io), 39 P0.0 (io), 40 VCC (power)

## 14536
designator U?
footprint DIP16
pins: 1 S (in), 2 R (in), 3 IN1 (in), 4 O1 (out), 5 O2 (out), 6 8_BY (in), 7 CINH (in), 8 GND (power) hidden to GND, 9 A (in), 10 B (in), 11 C (in), 12 D (in), 13 DO (out), 14 OINH (in), 15 MONO (in), 16 VCC (power) hidden to VCC

## 22103A
designator U?
footprint DIP16
pins: 1 NRZ_IN (in), 2 CTX (in), 3 HDB3/AMI (in), 4 NRZ_OUT (out), 5 CRX (in), 6 /RAIS (in), 7 AIS (out), 8 VSS (power), 9 ERR (out), 10 CKR (out), 11 HDB3I- (in), 12 LTE (in), 13 HDB3I+ (in), 14 HDB3O- (out), 15 HDB3O+ (out), 16 VDD (power)

## 55564
designator U?
pins: 1 VDD, 2 AG, 3 AOUT (out), 4 /AGC (out), 5 AIN (in), 8 DG, 9 CLK (in), 10 ED (in), 11 /APD (in), 12 DIN (in), 13 /FZ (in), 14 DOUT (out)

## 55564A
designator U?
pins: 1 VCC, 2 AG, 3 AOUT (out), 4 /AGC (out), 5 AIN (in), 8 DG, 9 CLK (in), 10 CONT (in), 11 /APD (in), 12 DIN (in), 13 /FZ (in), 14 DOUT (out)

## 55564AS
designator U?
pins: 1 VDD, 2 AG, 3 AOUT (out), 4 /AGC (out), 5 AIN (in), 10 DG, 11 CLK (in), 12 ED (in), 13 /APD (in), 14 DIN (in), 15 /FZ (in), 16 DOUT (out)

## 55564S
designator U?
pins: 1 VCC, 2 AG, 3 AOUT (out), 4 /AGC (out), 5 AIN (in), 10 DG, 11 CLK (in), 12 CONT (in), 13 /APD (in), 14 DIN (in), 15 /FZ (in), 16 DOUT (out)

## 69080
designator U?
footprint LDHP3
pins: 1 GND, 2 D, 3 ~{D}, 4 VCC, G

## 74244
designator ?
pins: 1 ~{G1}, 2 I0, 3 Q7, 4 I1, 5 Q6, 6 I2, 7 Q5, 8 I3, 9 Q4, 11 I4, 12 Q3, 13 I3, 14 Q2, 15 I2, 16 Q1, 17 I1, 18 Q0, 19 ~{G2}

## 74248
designator U?
footprint DIP16
pins: 1 B (in), 2 C (in), 3 ~{LT} (in), 4 ~{BI/RBO} (in), 5 ~{RBI} (in), 6 D (in), 7 A (in), 8 GND (power), 9 e (out), 10 d (out), 11 c (out), 12 b (out), 13 a (out), 14 g (out), 15 f (out), 16 VCC (power)

## 74373
designator ?
pins: 1 ~{OE}, 2 Q0, 3 I0, 4 I1, 5 Q1, 6 Q2, 7 I2, 8 I3, 9 Q3, 11 CLK

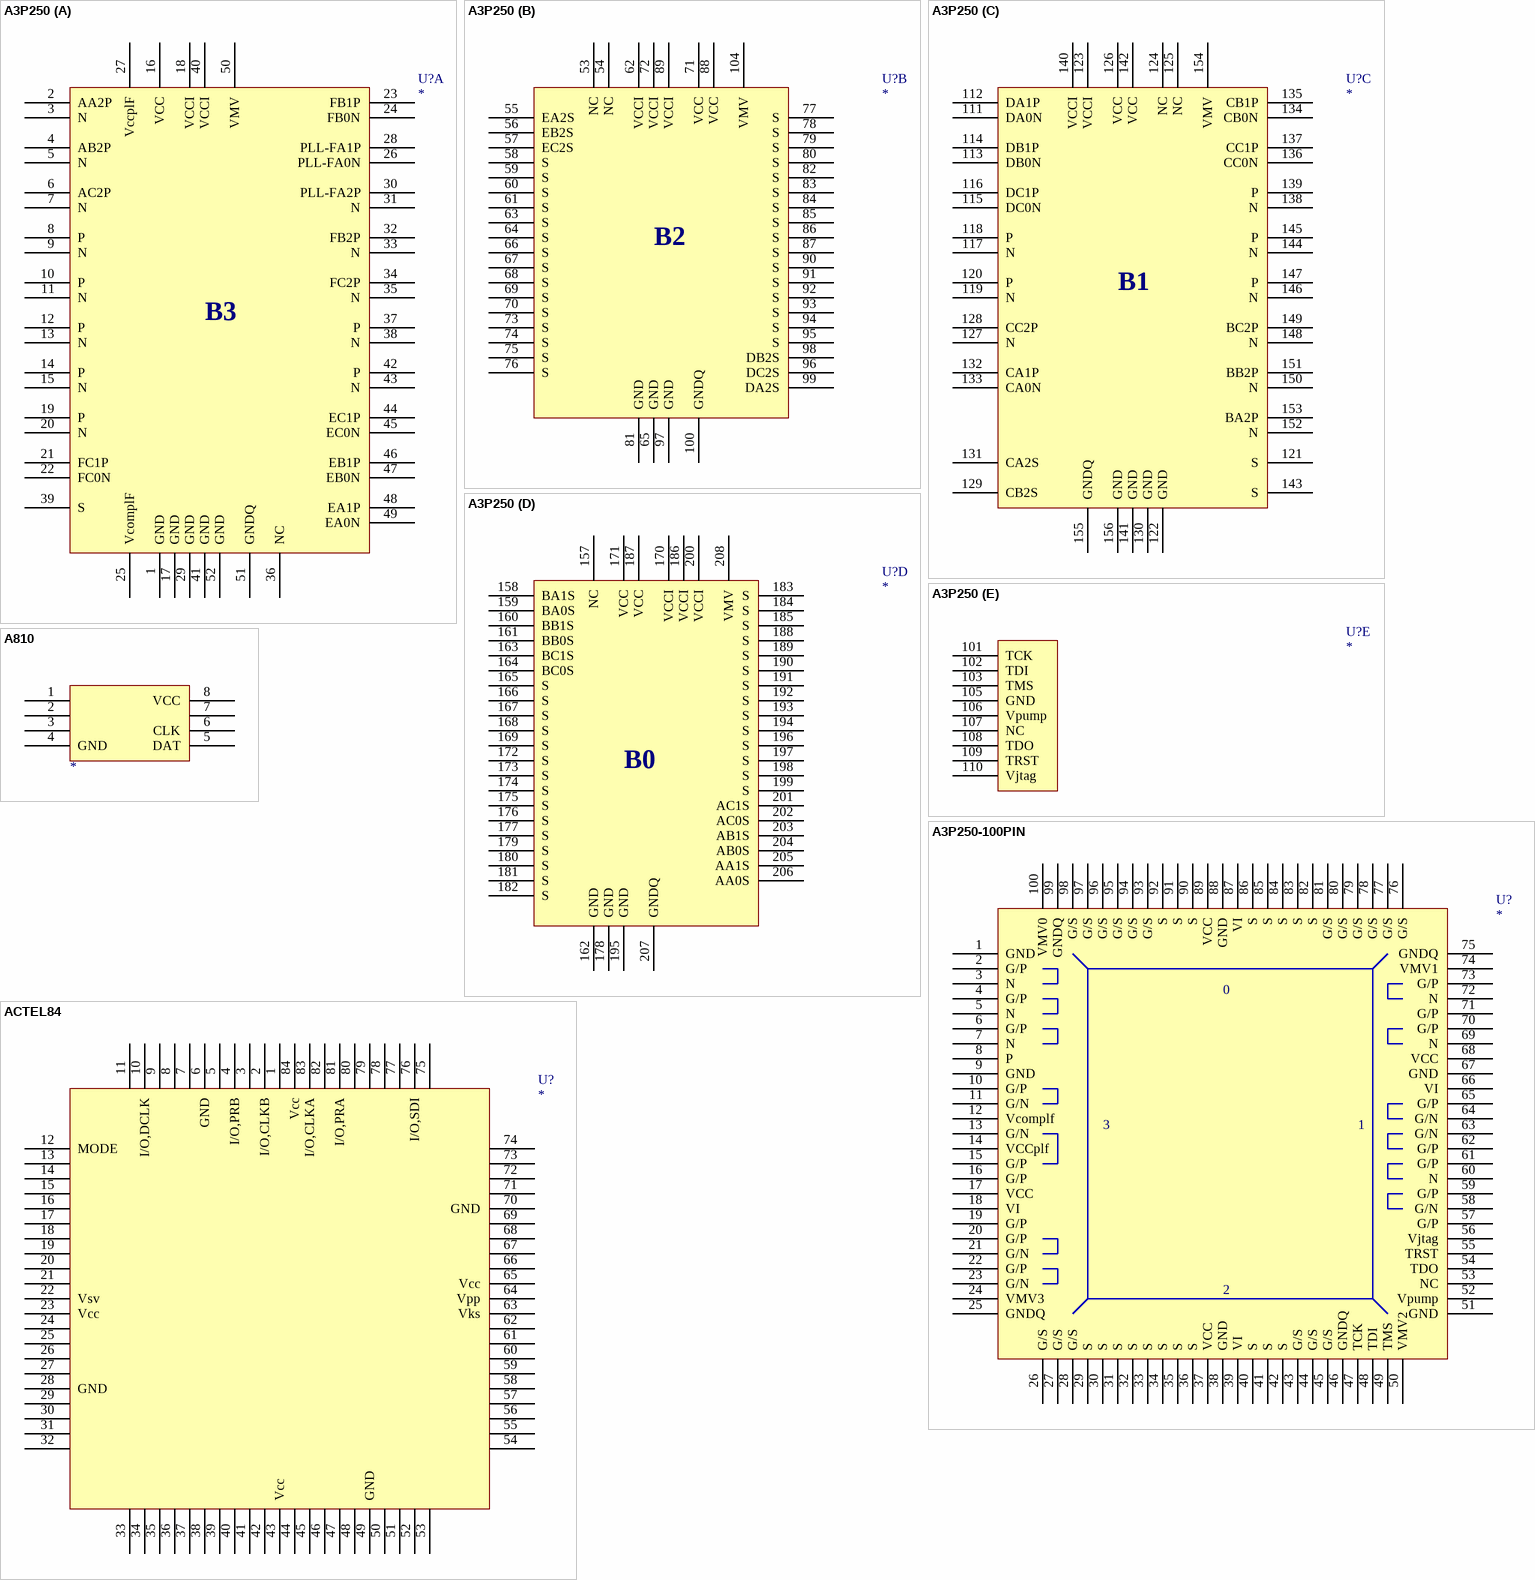
[diagram p6: symbols A3P250 to ACTEL84]

## A3P250
designator U?
footprint PQFP208
part A pins: 1 GND, 2 AA2P, 3 N, 4 AB2P, 5 N, 6 AC2P, 7 N, 8 P, 9 N, 10 P, 11 N, 12 P, 13 N, 14 P, 15 N, 16 VCC, 17 GND, 18 VCCI, 19 P, 20 N, 21 FC1P, 22 FC0N, 23 FB1P, 24 FB0N, 25 VcomplF, 26 PLL-FA0N, 27 VccplF, 28 PLL-FA1P, 29 GND, 30 PLL-FA2P, 31 N, 32 FB2P, 33 N, 34 FC2P, 35 N, 36 NC, 37 P, 38 N, 39 S, 40 VCCI, 41 GND, 42 P, 43 N, 44 EC1P, 45 EC0N, 46 EB1P, 47 EB0N, 48 EA1P, 49 EA0N, 50 VMV, 51 GNDQ, 52 GND
part B pins: 53 NC, 54 NC, 55 EA2S, 56 EB2S, 57 EC2S, 58 S, 59 S, 60 S, 61 S, 62 VCCI, 63 S, 64 S, 65 GND, 66 S, 67 S, 68 S, 69 S, 70 S, 71 VCC, 72 VCCI, 73 S, 74 S, 75 S, 76 S, 77 S, 78 S, 79 S, 80 S, 81 GND, 82 S, 83 S, 84 S, 85 S, 86 S, 87 S, 88 VCC, 89 VCCI, 90 S, 91 S, 92 S, 93 S, 94 S, 95 S, 96 DC2S, 97 GND, 98 DB2S, 99 DA2S, 100 GNDQ, 104 VMV
part C pins: 111 DA0N, 112 DA1P, 113 DB0N, 114 DB1P, 115 DC0N, 116 DC1P, 117 N, 118 P, 119 N, 120 P, 121 S, 122 GND, 123 VCCI, 124 NC, 125 NC, 126 VCC, 127 N, 128 CC2P, 129 CB2S, 130 GND, 131 CA2S, 132 CA1P, 133 CA0N, 134 CB0N, 135 CB1P, 136 CC0N, 137 CC1P, 138 N, 139 P, 140 VCCI, 141 GND, 142 VCC, 143 S, 144 N, 145 P, 146 N, 147 P, 148 N, 149 BC2P, 150 N, 151 BB2P, 152 N, 153 BA2P, 154 VMV, 155 GNDQ, 156 GND
part D pins: 157 NC, 158 BA1S, 159 BA0S, 160 BB1S, 161 BB0S, 162 GND, 163 BC1S, 164 BC0S, 165 S, 166 S, 167 S, 168 S, 169 S, 170 VCCI, 171 VCC, 172 S, 173 S, 174 S, 175 S, 176 S, 177 S, 178 GND, 179 S, 180 S, 181 S, 182 S, 183 S, 184 S, 185 S, 186 VCCI, 187 VCC, 188 S, 189 S, 190 S, 191 S, 192 S, 193 S, 194 S, 195 GND, 196 S, 197 S, 198 S, 199 S, 200 VCCI, 201 AC1S, 202 AC0S, 203 AB1S, 204 AB0S, 205 AA1S, 206 AA0S, 207 GNDQ, 208 VMV
part E pins: 101 TCK, 102 TDI, 103 TMS, 105 GND, 106 Vpump, 107 NC, 108 TDO, 109 TRST, 110 Vjtag
part A text: B3
part B text: B2
part C text: B1
part D text: B0

## A3P250-100PIN
designator U?
footprint PQFP100
pins: 1 GND, 2 G/P, 3 N, 4 G/P, 5 N, 6 G/P, 7 N, 8 P, 9 GND, 10 G/P, 11 G/N, 12 Vcomplf, 13 G/N, 14 VCCplf, 15 G/P, 16 G/P, 17 VCC, 18 VI, 19 G/P, 20 G/P, 21 G/N, 22 G/P, 23 G/N, 24 VMV3, 25 GNDQ, 26 G/S, 27 G/S, 28 G/S, 29 S, 30 S, 31 S, 32 S, 33 S, 34 S, 35 S, 36 S, 37 VCC, 38 GND, 39 VI, 40 S, 41 S, 42 S, 43 G/S, 44 G/S, 45 G/S, 46 GNDQ, 47 TCK, 48 TDI, 49 TMS, 50 VMV2, 51 GND, 52 Vpump, 53 NC, 54 TDO, 55 TRST, 56 Vjtag, 57 G/P, 58 G/N, 59 G/P, 60 N, 61 G/P, 62 G/P, 63 G/N, 64 G/N, 65 G/P, 66 VI, 67 GND, 68 VCC, 69 N, 70 G/P, 71 G/P, 72 N, 73 G/P, 74 VMV1, 75 GNDQ, 76 G/S, 77 G/S, 78 G/S, 79 G/S, 80 G/S, 81 G/S, 82 S, 83 S, 84 S, 85 S, 86 S, 87 VI, 88 GND, 89 VCC, 90 S, 91 S, 92 S, 93 G/S, 94 G/S, 95 G/S, 96 G/S, 97 G/S, 98 G/S, 99 GNDQ, 100 VMV0
text: 0

## A810
designator ?
pins: 1, 2, 3, 4 GND, 5 DAT, 6 CLK, 7, 8 VCC

## ACTEL84
designator U?
pins: 1, 2 I/O,CLKB, 3, 4 I/O,PRB, 5, 6 GND, 7, 8, 9, 10 I/O,DCLK, 11, 12 MODE, 13, 14, 15, 16, 17, 18, 19, 20, 21, 22 Vsv, 23 Vcc, 24, 25, 26, 27, 28 GND, 29, 30, 31, 32, 33, 34, 35, 36, 37, 38, 39, 40, 41, 42, 43 Vcc, 44, 45, 46, 47, 48, 49 GND, 50, 51, 52, 53, 54, 55, 56, 57, 58, 59, 60, 61, 62, 63 Vks, 64 Vpp, 65 Vcc, 66, 67, 68, 69, 70 GND, 71, 72, 73, 74, 75, 76 I/O,SDI, 77, 78, 79, 80, 81 I/O,PRA, 82, 83 I/O,CLKA, 84 Vcc

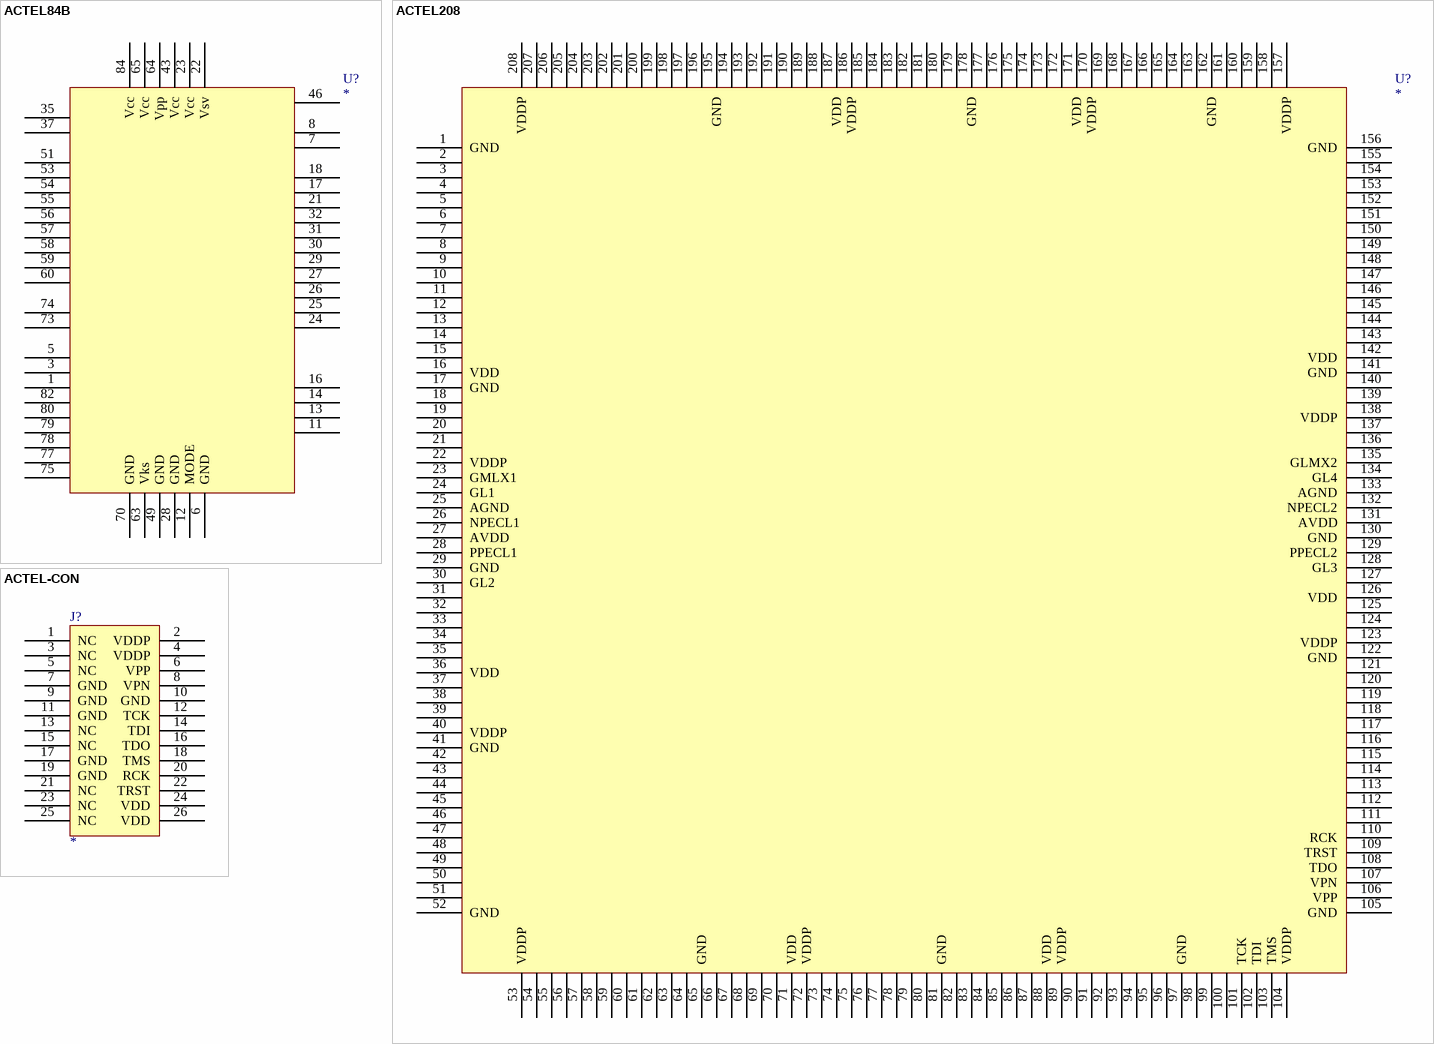
[diagram p7: symbols ACTEL84B to ACTEL-CON]

## ACTEL84B
designator U?
pins: 1, 3, 5, 6 GND, 7, 8, 11, 12 MODE, 13, 14, 16, 17, 18, 21, 22 Vsv, 23 Vcc, 24, 25, 26, 27, 28 GND, 29, 30, 31, 32, 35, 37, 43 Vcc, 46, 49 GND, 51, 53, 54, 55, 56, 57, 58, 59, 60, 63 Vks, 64 Vpp, 65 Vcc, 70 GND, 73, 74, 75, 77, 78, 79, 80, 82, 84 Vcc

## ACTEL208
designator U?
footprint PQFP208
pins: 1 GND, 2, 3, 4, 5, 6, 7, 8, 9, 10, 11, 12, 13, 14, 15, 16 VDD, 17 GND, 18, 19, 20, 21, 22 VDDP, 23 GMLX1, 24 GL1, 25 AGND, 26 NPECL1, 27 AVDD, 28 PPECL1, 29 GND, 30 GL2, 31, 32, 33, 34, 35, 36 VDD, 37, 38, 39, 40 VDDP, 41 GND, 42, 43, 44, 45, 46, 47, 48, 49, 50, 51, 52 GND, 53 VDDP, 54, 55, 56, 57, 58, 59, 60, 61, 62, 63, 64, 65 GND, 66, 67, 68, 69, 70, 71 VDD, 72 VDDP, 73, 74, 75, 76, 77, 78, 79, 80, 81 GND, 82, 83, 84, 85, 86, 87, 88 VDD, 89 VDDP, 90, 91, 92, 93, 94, 95, 96, 97 GND, 98, 99, 100, 101 TCK, 102 TDI, 103 TMS, 104 VDDP, 105 GND, 106 VPP, 107 VPN, 108 TDO, 109 TRST, 110 RCK, 111, 112, 113, 114, 115, 116, 117, 118, 119, 120, 121, 122 GND, 123 VDDP, 124, 125, 126 VDD, 127, 128 GL3, 129 PPECL2, 130 GND, 131 AVDD, 132 NPECL2, 133 AGND, 134 GL4, 135 GLMX2, 136, 137, 138 VDDP, 139, 140, 141 GND, 142 VDD, 143, 144, 145, 146, 147, 148, 149, 150, 151, 152, 153, 154, 155, 156 GND, 157 VDDP, 158, 159, 160, 161, 162 GND, 163, 164, 165, 166, 167, 168, 169, 170 VDDP, 171 VDD, 172, 173, 174, 175, 176, 177, 178 GND, 179, 180, 181, 182, 183, 184, 185, 186 VDDP, 187 VDD, 188, 189, 190, 191, 192, 193, 194, 195 GND, 196, 197, 198, 199, 200, 201, 202, 203, 204, 205, 206, 207, 208 VDDP

## ACTEL-CON
designator J?
footprint FPGAP26
pins: 1 NC, 2 VDDP, 3 NC, 4 VDDP, 5 NC, 6 VPP, 7 GND, 8 VPN, 9 GND, 10 GND, 11 GND, 12 TCK, 13 NC, 14 TDI, 15 NC, 16 TDO, 17 GND, 18 TMS, 19 GND, 20 RCK, 21 NC, 22 TRST, 23 NC, 24 VDD, 25 NC, 26 VDD

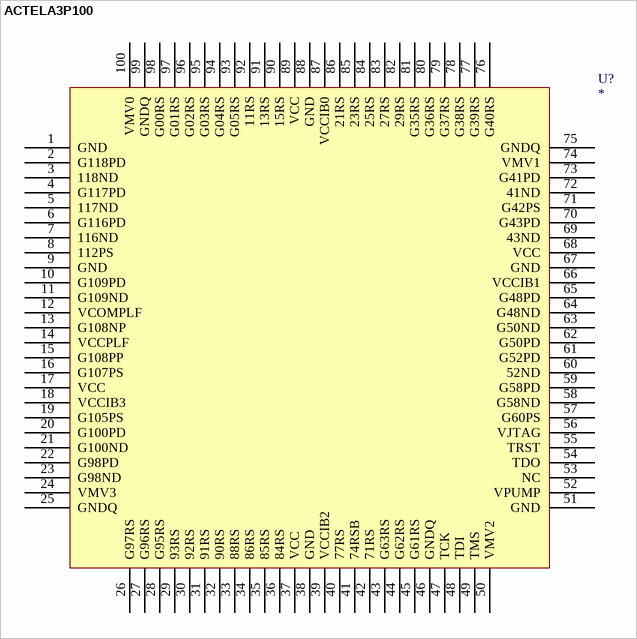
[diagram p8: symbol ACTELA3P100]

## ACTELA3P100
designator U?
footprint TQFP-100(FPGA)
pins: 1 GND, 2 G118PD, 3 118ND, 4 G117PD, 5 117ND, 6 G116PD, 7 116ND, 8 112PS, 9 GND, 10 G109PD, 11 G109ND, 12 VCOMPLF, 13 G108NP, 14 VCCPLF, 15 G108PP, 16 G107PS, 17 VCC, 18 VCCIB3, 19 G105PS, 20 G100PD, 21 G100ND, 22 G98PD, 23 G98ND, 24 VMV3, 25 GNDQ, 26 G97RS, 27 G96RS, 28 G95RS, 29 93RS, 30 92RS, 31 91RS, 32 90RS, 33 88RS, 34 86RS, 35 85RS, 36 84RS, 37 VCC, 38 GND, 39 VCCIB2, 40 77RS, 41 74RSB, 42 71RS, 43 G63RS, 44 G62RS, 45 G61RS, 46 GNDQ, 47 TCK, 48 TDI, 49 TMS, 50 VMV2, 51 GND, 52 VPUMP, 53 NC, 54 TDO, 55 TRST, 56 VJTAG, 57 G60PS, 58 G58ND, 59 G58PD, 60 52ND, 61 G52PD, 62 G50PD, 63 G50ND, 64 G48ND, 65 G48PD, 66 VCCIB1, 67 GND, 68 VCC, 69 43ND, 70 G43PD, 71 G42PS, 72 41ND, 73 G41PD, 74 VMV1, 75 GNDQ, 76 G40RS, 77 G39RS, 78 G38RS, 79 G37RS, 80 G36RS, 81 G35RS, 82 29RS, 83 27RS, 84 25RS, 85 23RS, 86 21RS, 87 VCCIB0, 88 GND, 89 VCC, 90 15RS, 91 13RS, 92 11RS, 93 G05RS, 94 G04RS, 95 G03RS, 96 G02RS, 97 G01RS, 98 G00RS, 99 GNDQ, 100 VMV0

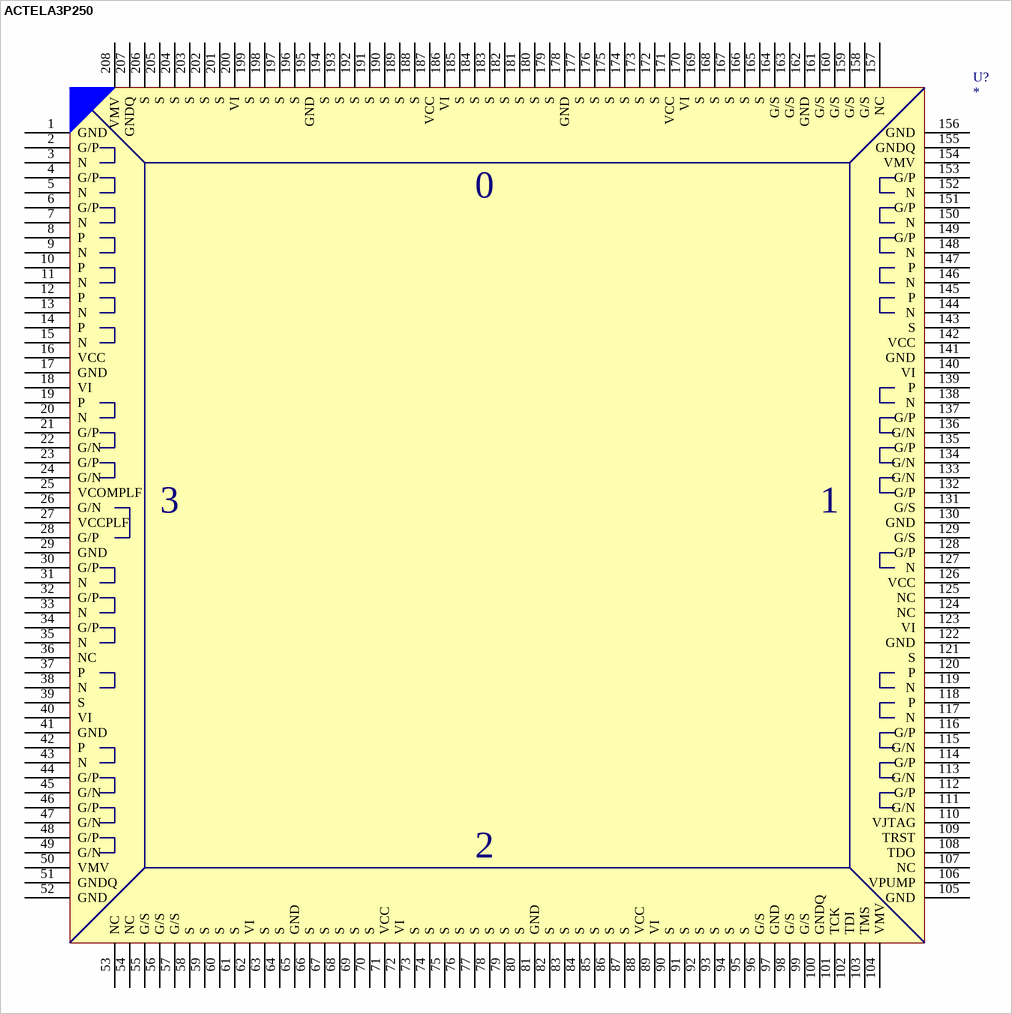
[diagram p9: symbol ACTELA3P250]

## ACTELA3P250
designator U?
footprint PQFP208
pins: 1 GND, 2 G/P, 3 N, 4 G/P, 5 N, 6 G/P, 7 N, 8 P, 9 N, 10 P, 11 N, 12 P, 13 N, 14 P, 15 N, 16 VCC, 17 GND, 18 VI, 19 P, 20 N, 21 G/P, 22 G/N, 23 G/P, 24 G/N, 25 VCOMPLF, 26 G/N, 27 VCCPLF, 28 G/P, 29 GND, 30 G/P, 31 N, 32 G/P, 33 N, 34 G/P, 35 N, 36 NC, 37 P, 38 N, 39 S, 40 VI, 41 GND, 42 P, 43 N, 44 G/P, 45 G/N, 46 G/P, 47 G/N, 48 G/P, 49 G/N, 50 VMV, 51 GNDQ, 52 GND, 53 NC, 54 NC, 55 G/S, 56 G/S, 57 G/S, 58 S, 59 S, 60 S, 61 S, 62 VI, 63 S, 64 S, 65 GND, 66 S, 67 S, 68 S, 69 S, 70 S, 71 VCC, 72 VI, 73 S, 74 S, 75 S, 76 S, 77 S, 78 S, 79 S, 80 S, 81 GND, 82 S, 83 S, 84 S, 85 S, 86 S, 87 S, 88 VCC, 89 VI, 90 S, 91 S, 92 S, 93 S, 94 S, 95 S, 96 G/S, 97 GND, 98 G/S, 99 G/S, 100 GNDQ, 101 TCK, 102 TDI, 103 TMS, 104 VMV, 105 GND, 106 VPUMP, 107 NC, 108 TDO, 109 TRST, 110 VJTAG, 111 G/N, 112 G/P, 113 G/N, 114 G/P, 115 G/N, 116 G/P, 117 N, 118 P, 119 N, 120 P, 121 S, 122 GND, 123 VI, 124 NC, 125 NC, 126 VCC, 127 N, 128 G/P, 129 G/S, 130 GND, 131 G/S, 132 G/P, 133 G/N, 134 G/N, 135 G/P, 136 G/N, 137 G/P, 138 N, 139 P, 140 VI, 141 GND, 142 VCC, 143 S, 144 N, 145 P, 146 N, 147 P, 148 N, 149 G/P, 150 N, 151 G/P, 152 N, 153 G/P, 154 VMV, 155 GNDQ, 156 GND, 157 NC, 158 G/S, 159 G/S, 160 G/S, 161 G/S, 162 GND, 163 G/S, 164 G/S, 165 S, 166 S, 167 S, 168 S, 169 S, 170 VI, 171 VCC, 172 S, 173 S, 174 S, 175 S, 176 S, 177 S, 178 GND, 179 S, 180 S, 181 S, 182 S, 183 S, 184 S, 185 S, 186 VI, 187 VCC, 188 S, 189 S, 190 S, 191 S, 192 S, 193 S, 194 S, 195 GND, 196 S, 197 S, 198 S, 199 S, 200 VI, 201 S, 202 S, 203 S, 204 S, 205 S, 206 S, 207 GNDQ, 208 VMV
text: 0

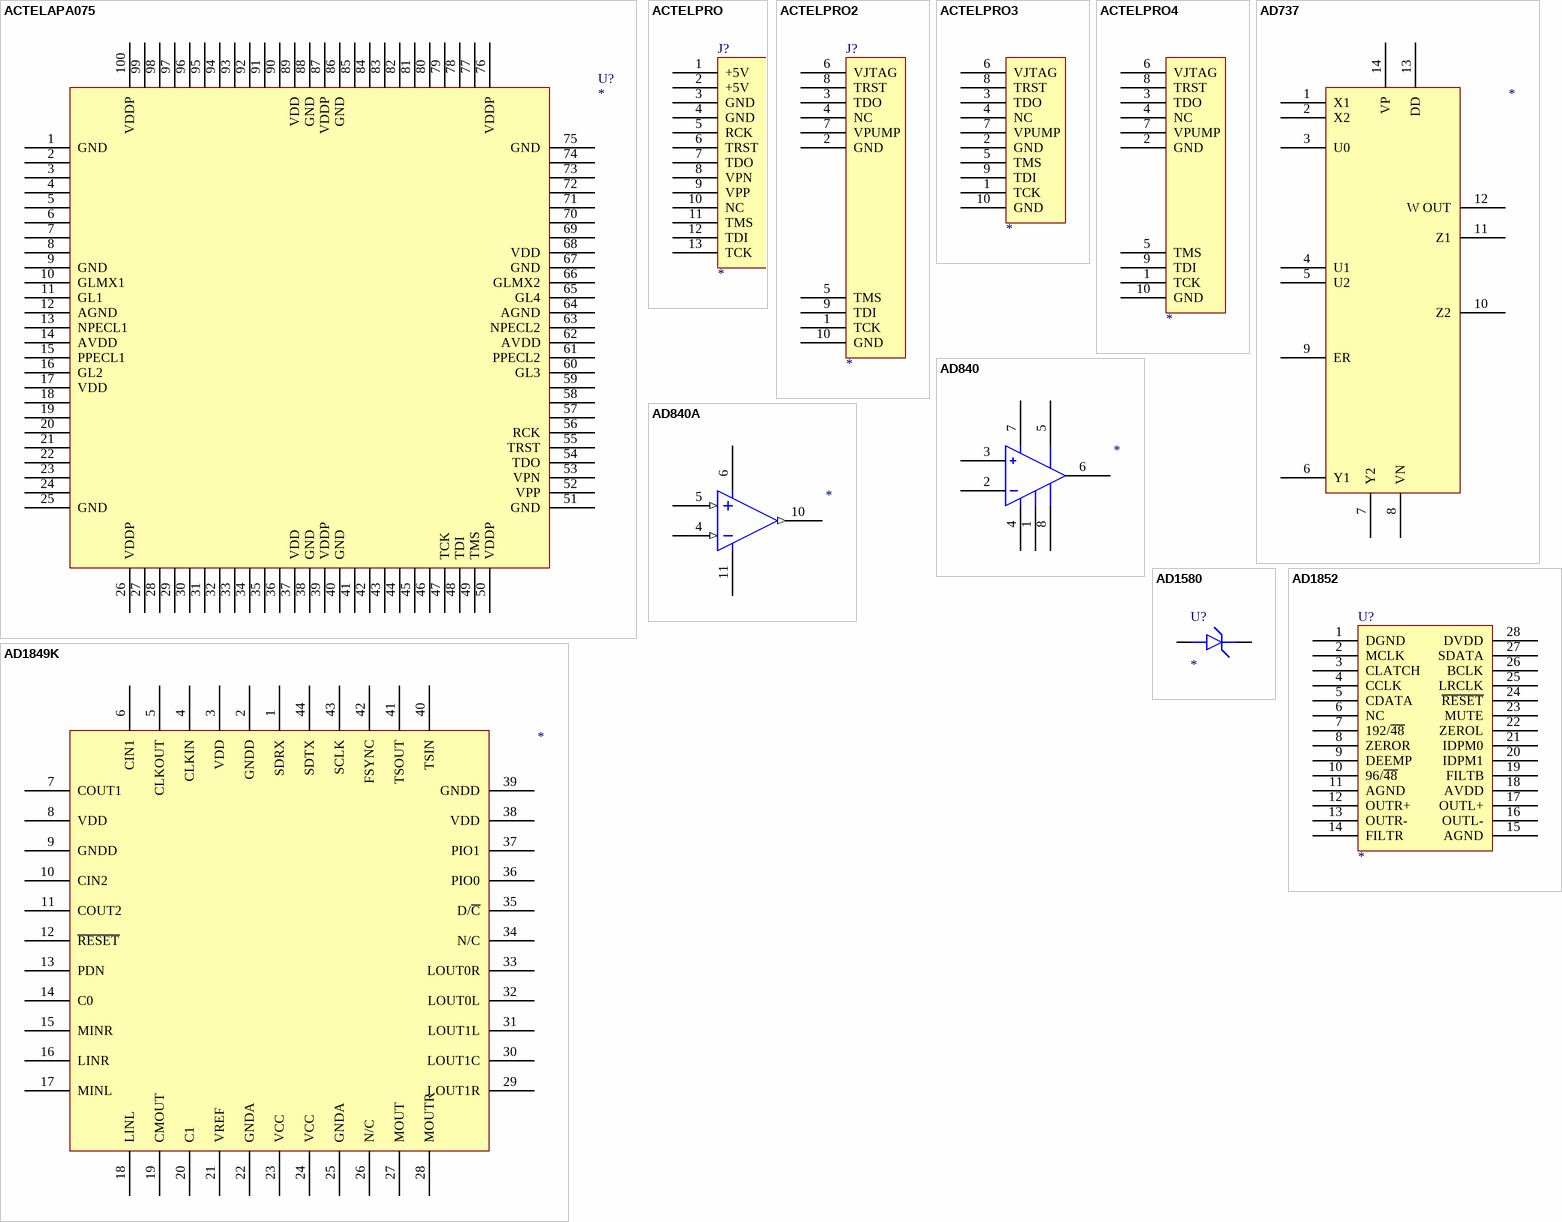
[diagram p10: symbols ACTELAPA075 to AD1852]

## ACTELAPA075
designator U?
footprint TQFP-100(FPGA)
pins: 1 GND, 2, 3, 4, 5, 6, 7, 8, 9 GND, 10 GLMX1, 11 GL1, 12 AGND, 13 NPECL1, 14 AVDD, 15 PPECL1, 16 GL2, 17 VDD, 18, 19, 20, 21, 22, 23, 24, 25 GND, 26 VDDP, 27, 28, 29, 30, 31, 32, 33, 34, 35, 36, 37 VDD, 38 GND, 39 VDDP, 40 GND, 41, 42, 43, 44, 45, 46, 47 TCK, 48 TDI, 49 TMS, 50 VDDP, 51 GND, 52 VPP, 53 VPN, 54 TDO, 55 TRST, 56 RCK, 57, 58, 59, 60 GL3, 61 PPECL2, 62 AVDD, 63 NPECL2, 64 AGND, 65 GL4, 66 GLMX2, 67 GND, 68 VDD, 69, 70, 71, 72, 73, 74, 75 GND, 76 VDDP, 77, 78, 79, 80, 81, 82, 83, 84, 85, 86 GND, 87 VDDP, 88 GND, 89 VDD, 90, 91, 92, 93, 94, 95, 96, 97, 98, 99, 100 VDDP

## ACTELPRO
designator J?
footprint ACTEL-PRO
pins: 1 +5V, 2 +5V, 3 GND, 4 GND, 5 RCK, 6 TRST, 7 TDO, 8 VPN, 9 VPP, 10 NC, 11 TMS, 12 TDI, 13 TCK

## ACTELPRO2
designator J?
footprint CON10-F2
pins: 1 TCK, 2 GND, 3 TDO, 4 NC, 5 TMS, 6 VJTAG, 7 VPUMP, 8 TRST, 9 TDI, 10 GND

## ACTELPRO3
designator ?
pins: 1 TCK, 2 GND, 3 TDO, 4 NC, 5 TMS, 6 VJTAG, 7 VPUMP, 8 TRST, 9 TDI, 10 GND

## ACTELPRO4
designator ?
pins: 1 TCK, 2 GND, 3 TDO, 4 NC, 5 TMS, 6 VJTAG, 7 VPUMP, 8 TRST, 9 TDI, 10 GND

## AD737
designator ?
pins: 1 X1, 2 X2, 3 U0, 4 U1, 5 U2, 6 Y1, 7 Y2, 8 VN, 9 ER, 10 Z2, 11 Z1, 12 W OUT, 13 DD, 14 VP

## AD840
designator ?
pins: 1, 2, 3, 4, 5, 6, 7, 8

## AD840A
designator ?
pins: 4 -IN (in), 5 +IN (in), 6 V-, 10 OUT (out), 11 V+

## AD1580
designator U?
footprint SMD-23
pins: 1 A, 2 K

## AD1849K
designator ?
U?
pins: 1 SDRX, 2 GNDD, 3 VDD, 4 CLKIN, 5 CLKOUT, 6 CIN1, 7 COUT1, 8 VDD (power), 9 GNDD (power), 10 CIN2, 11 COUT2, 12 ~{RESET}, 13 PDN, 14 C0, 15 MINR, 16 LINR, 17 MINL, 18 LINL, 19 CMOUT, 20 C1, 21 VREF, 22 GNDA (power), 23 VCC (power), 24 VCC (power), 25 GNDA (power), 26 N/C, 27 MOUT, 28 MOUTR, 29 LOUT1R, 30 LOUT1C, 31 LOUT1L, 32 LOUT0L, 33 LOUT0R, 34 N/C, 35 D/~{C}, 36 PIO0, 37 PIO1, 38 VDD (power), 39 GNDD (power), 40 TSIN, 41 TSOUT, 42 FSYNC, 43 SCLK, 44 SDTX

## AD1852
designator U?
footprint RS-28
pins: 1 DGND, 2 MCLK, 3 CLATCH, 4 CCLK, 5 CDATA, 6 NC, 7 192/~{48}, 8 ZEROR, 9 DEEMP, 10 96/~{48}, 11 AGND, 12 OUTR+, 13 OUTR-, 14 FILTR, 15 AGND, 16 OUTL-, 17 OUTL+, 18 AVDD, 19 FILTB, 20 IDPM1, 21 IDPM0, 22 ZEROL, 23 MUTE, 24 ~{RESET}, 25 LRCLK, 26 BCLK, 27 SDATA, 28 DVDD

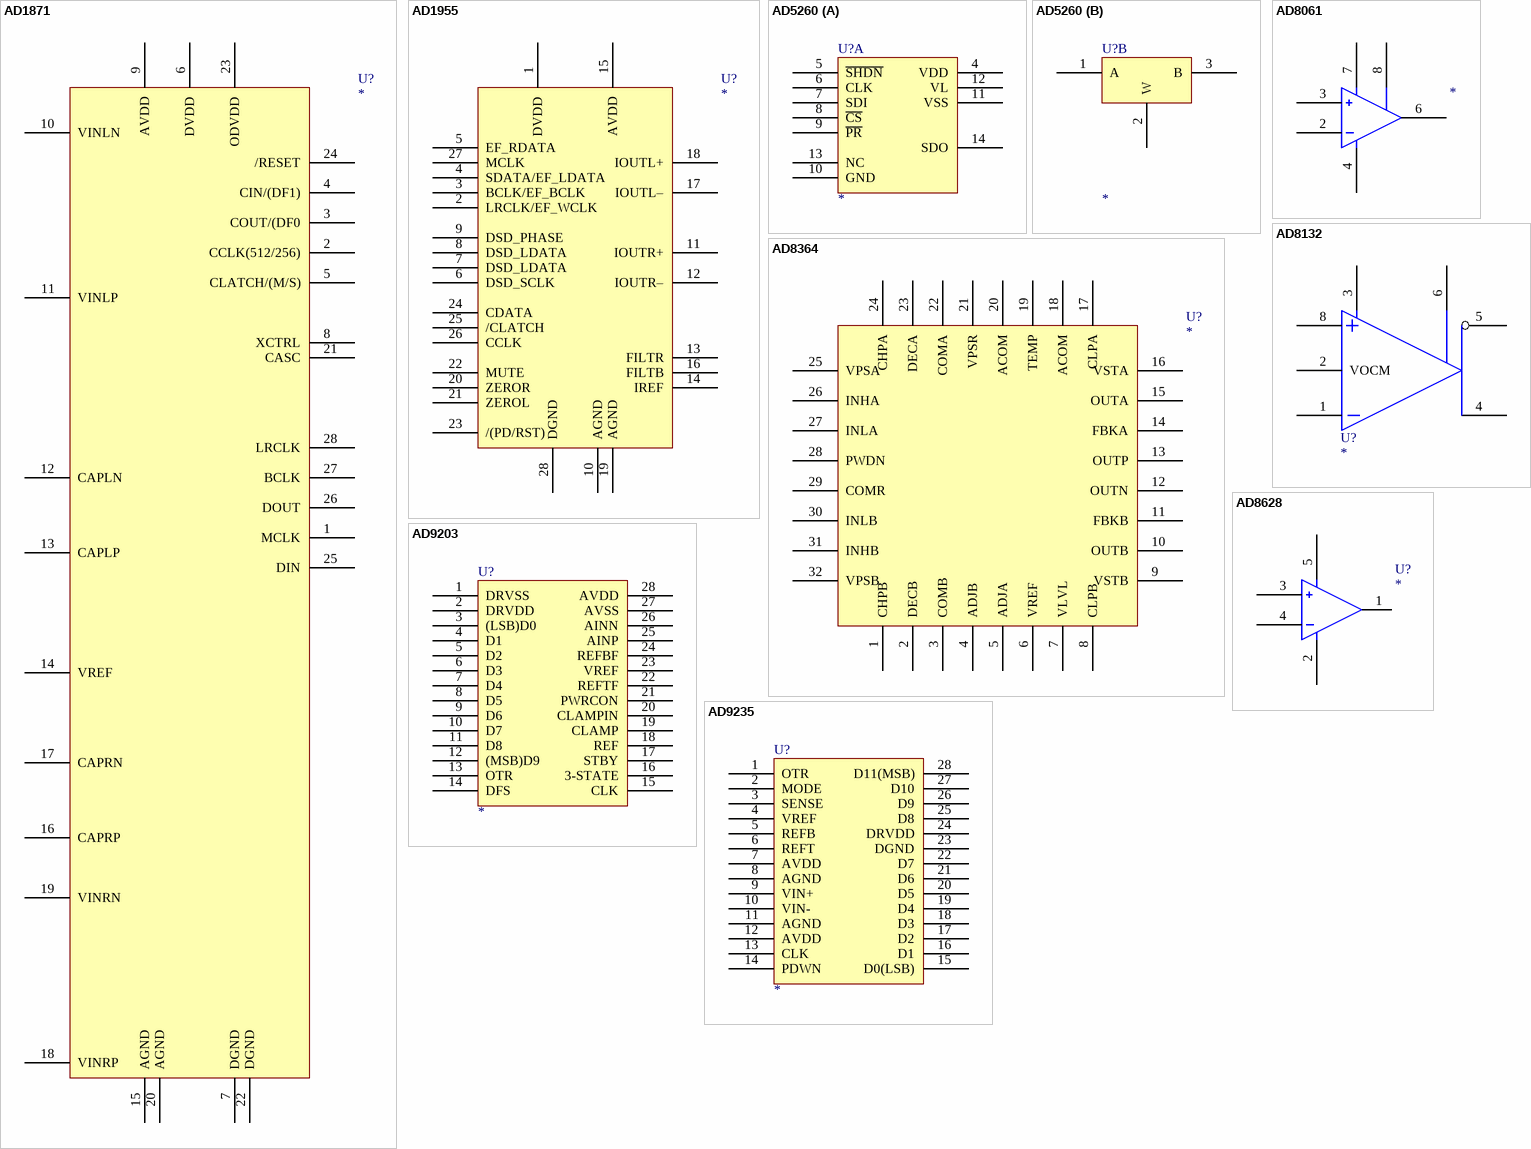
[diagram p11: symbols AD1871 to AD9235]

## AD1871
designator U?
footprint RS-28
pins: 1 MCLK, 2 CCLK(512/256), 3 COUT/(DF0, 4 CIN/(DF1), 5 CLATCH/(M/S), 6 DVDD, 7 DGND, 8 XCTRL, 9 AVDD, 10 VINLN, 11 VINLP, 12 CAPLN, 13 CAPLP, 14 VREF, 15 AGND, 16 CAPRP, 17 CAPRN, 18 VINRP, 19 VINRN, 20 AGND, 21 CASC, 22 DGND, 23 ODVDD, 24 /RESET, 25 DIN, 26 DOUT, 27 BCLK, 28 LRCLK

## AD1955
designator U?
footprint RS-28
pins: 1 DVDD, 2 LRCLK/EF_WCLK, 3 BCLK/EF_BCLK, 4 SDATA/EF_LDATA, 5 EF_RDATA, 6 DSD_SCLK, 7 DSD_LDATA, 8 DSD_LDATA, 9 DSD_PHASE, 10 AGND, 11 IOUTR+, 12 IOUTR–, 13 FILTR, 14 IREF, 15 AVDD, 16 FILTB, 17 IOUTL–, 18 IOUTL+, 19 AGND, 20 ZEROR, 21 ZEROL, 22 MUTE, 23 /(PD/RST), 24 CDATA, 25 /CLATCH, 26 CCLK, 27 MCLK, 28 DGND

## AD5260
designator U?
footprint TSS-14
part A pins: 4 VDD, 5 ~{SHDN}, 6 CLK, 7 SDI, 8 ~{CS}, 9 ~{PR}, 10 GND, 11 VSS, 12 VL, 13 NC, 14 SDO
part B pins: 1 A, 2 W, 3 B

## AD8061
designator ?
pins: 2, 3, 4, 6, 7, 8

## AD8132
designator U?
footprint SO-8
pins: 1, 2 VOCM, 3, 4, 5, 6, 8

## AD8364
designator U?
footprint 32-LFCSP-VQ
pins: 1 CHPB, 2 DECB, 3 COMB, 4 ADJB, 5 ADJA, 6 VREF, 7 VLVL, 8 CLPB, 9 VSTB, 10 OUTB, 11 FBKB, 12 OUTN, 13 OUTP, 14 FBKA, 15 OUTA, 16 VSTA, 17 CLPA, 18 ACOM, 19 TEMP, 20 ACOM, 21 VPSR, 22 COMA, 23 DECA, 24 CHPA, 25 VPSA, 26 INHA, 27 INLA, 28 PWDN, 29 COMR, 30 INLB, 31 INHB, 32 VPSB

## AD8628
designator U?
footprint TSOT05
pins: 1, 2, 3, 4, 5

## AD9203
designator U?
footprint LTSSO-28
pins: 1 DRVSS, 2 DRVDD, 3 (LSB)D0, 4 D1, 5 D2, 6 D3, 7 D4, 8 D5, 9 D6, 10 D7, 11 D8, 12 (MSB)D9, 13 OTR, 14 DFS, 15 CLK, 16 3-STATE, 17 STBY, 18 REF, 19 CLAMP, 20 CLAMPIN, 21 PWRCON, 22 REFTF, 23 VREF, 24 REFBF, 25 AINP, 26 AINN, 27 AVSS, 28 AVDD

## AD9235
designator U?
footprint LTSSO-28
pins: 1 OTR, 2 MODE, 3 SENSE, 4 VREF, 5 REFB, 6 REFT, 7 AVDD, 8 AGND, 9 VIN+, 10 VIN-, 11 AGND, 12 AVDD, 13 CLK, 14 PDWN, 15 D0(LSB), 16 D1, 17 D2, 18 D3, 19 D4, 20 D5, 21 D6, 22 D7, 23 DGND, 24 DRVDD, 25 D8, 26 D9, 27 D10, 28 D11(MSB)

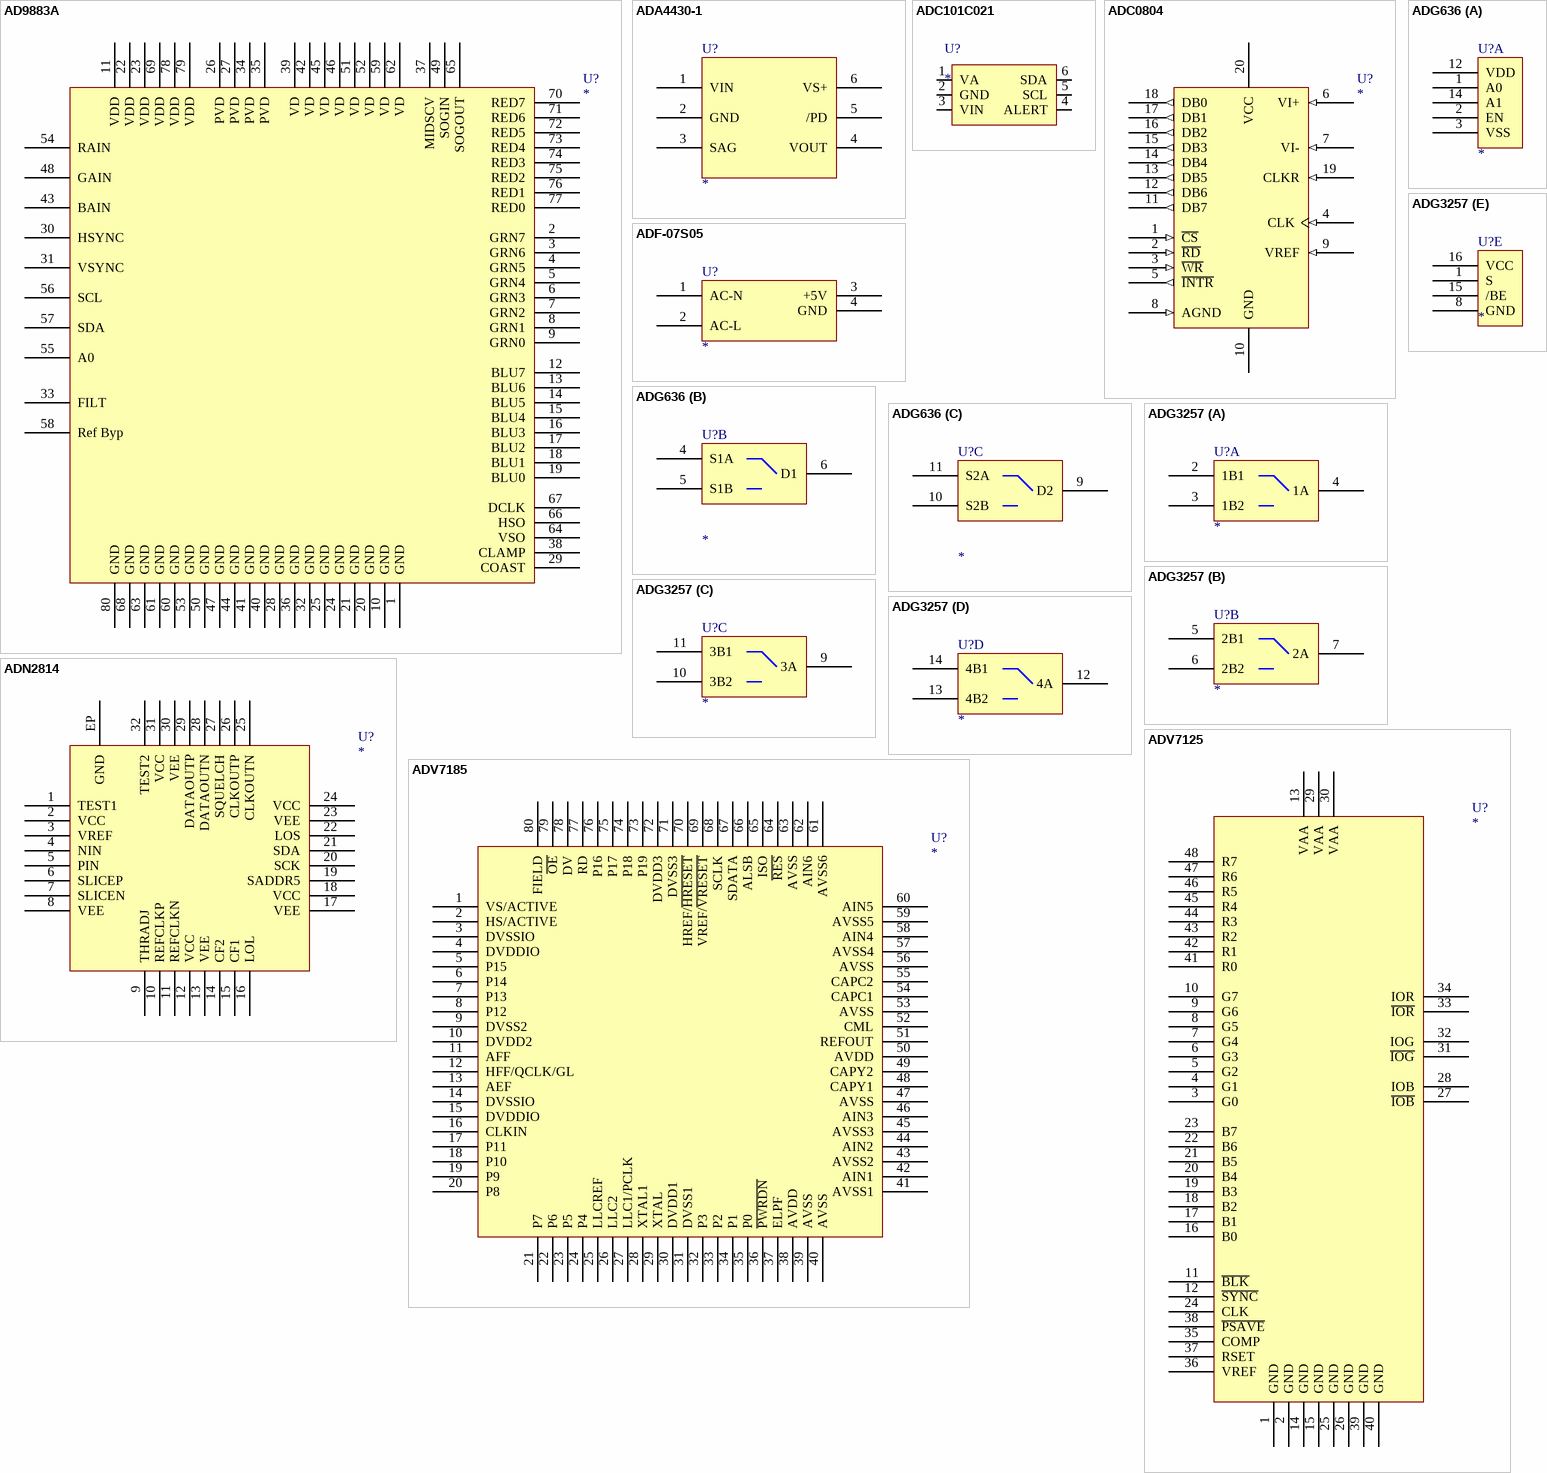
[diagram p12: symbols AD9883A to ADV7185]

## AD9883A
designator U?
footprint LQFP80B
pins: 1 GND, 2 GRN7, 3 GRN6, 4 GRN5, 5 GRN4, 6 GRN3, 7 GRN2, 8 GRN1, 9 GRN0, 10 GND, 11 VDD, 12 BLU7, 13 BLU6, 14 BLU5, 15 BLU4, 16 BLU3, 17 BLU2, 18 BLU1, 19 BLU0, 20 GND, 21 GND, 22 VDD, 23 VDD, 24 GND, 25 GND, 26 PVD, 27 PVD, 28 GND, 29 COAST, 30 HSYNC, 31 VSYNC, 32 GND, 33 FILT, 34 PVD, 35 PVD, 36 GND, 37 MIDSCV, 38 CLAMP, 39 VD, 40 GND, 41 GND, 42 VD, 43 BAIN, 44 GND, 45 VD, 46 VD, 47 GND, 48 GAIN, 49 SOGIN, 50 GND, 51 VD, 52 VD, 53 GND, 54 RAIN, 55 A0, 56 SCL, 57 SDA, 58 Ref Byp, 59 VD, 60 GND, 61 GND, 62 VD, 63 GND, 64 VSO, 65 SOGOUT, 66 HSO, 67 DCLK, 68 GND, 69 VDD, 70 RED7, 71 RED6, 72 RED5, 73 RED4, 74 RED3, 75 RED2, 76 RED1, 77 RED0, 78 VDD, 79 VDD, 80 GND

## ADA4430-1
designator U?
footprint SOT363
pins: 1 VIN, 2 GND, 3 SAG, 4 VOUT, 5 /PD, 6 VS+

## ADC101C021
designator U?
footprint SOT-25B
pins: 1 VA, 2 GND, 3 VIN, 4 ALERT, 5 SCL, 6 SDA

## ADC0804
designator U?
pins: 1 ~{CS} (in), 2 ~{RD} (in), 3 ~{WR} (in), 4 CLK (in), 5 ~{INTR} (out), 6 VI+ (in), 7 VI- (in), 8 AGND (in), 9 VREF (in), 10 GND (power), 11 DB7 (out), 12 DB6 (out), 13 DB5 (out), 14 DB4 (out), 15 DB3 (out), 16 DB2 (out), 17 DB1 (out), 18 DB0 (out), 19 CLKR (in), 20 VCC (power)

## ADF-07S05
designator U?
footprint PWR-MODL1
pins: 1 AC-N, 2 AC-L, 3 +5V, 4 GND

## ADG636
designator U?
footprint RU-14
part A pins: 1 A0, 2 EN, 3 VSS, 12 VDD, 14 A1
part B pins: 4 S1A, 5 S1B, 6 D1
part C pins: 9 D2, 10 S2B, 11 S2A

## ADG3257
designator U?
footprint RQ-16
part A pins: 2 1B1, 3 1B2, 4 1A
part B pins: 5 2B1, 6 2B2, 7 2A
part C pins: 9 3A, 10 3B2, 11 3B1
part D pins: 12 4A, 13 4B2, 14 4B1
part E pins: 1 S, 8 GND, 15 /BE, 16 VCC

## ADN2814
designator U?
footprint 32-LFCSP-VQ
pins: 1 TEST1, 2 VCC, 3 VREF, 4 NIN, 5 PIN, 6 SLICEP, 7 SLICEN, 8 VEE, 9 THRADJ, 10 REFCLKP, 11 REFCLKN, 12 VCC, 13 VEE, 14 CF2, 15 CF1, 16 LOL, 17 VEE, 18 VCC, 19 SADDR5, 20 SCK, 21 SDA, 22 LOS, 23 VEE, 24 VCC, 25 CLKOUTN, 26 CLKOUTP, 27 SQUELCH, 28 DATAOUTN, 29 DATAOUTP, 30 VEE, 31 VCC, 32 TEST2, EP GND

## ADV7125
designator U?
footprint ST-48
pins: 1 GND, 2 GND, 3 G0, 4 G1, 5 G2, 6 G3, 7 G4, 8 G5, 9 G6, 10 G7, 11 ~{BLK}, 12 ~{SYNC}, 13 VAA, 14 GND, 15 GND, 16 B0, 17 B1, 18 B2, 19 B3, 20 B4, 21 B5, 22 B6, 23 B7, 24 CLK, 25 GND, 26 GND, 27 ~{IOB}, 28 IOB, 29 VAA, 30 VAA, 31 ~{IOG}, 32 IOG, 33 ~{IOR}, 34 IOR, 35 COMP, 36 VREF, 37 RSET, 38 ~{PSAVE}, 39 GND, 40 GND, 41 R0, 42 R1, 43 R2, 44 R3, 45 R4, 46 R5, 47 R6, 48 R7

## ADV7185
designator U?
footprint ST-80
pins: 1 VS/ACTIVE, 2 HS/ACTIVE, 3 DVSSIO, 4 DVDDIO, 5 P15, 6 P14, 7 P13, 8 P12, 9 DVSS2, 10 DVDD2, 11 AFF, 12 HFF/QCLK/GL, 13 AEF, 14 DVSSIO, 15 DVDDIO, 16 CLKIN, 17 P11, 18 P10, 19 P9, 20 P8, 21 P7, 22 P6, 23 P5, 24 P4, 25 LLCREF, 26 LLC2, 27 LLC1/PCLK, 28 XTAL1, 29 XTAL, 30 DVDD1, 31 DVSS1, 32 P3, 33 P2, 34 P1, 35 P0, 36 ~{PWRDN}, 37 ELPF, 38 AVDD, 39 AVSS, 40 AVSS, 41 AVSS1, 42 AIN1, 43 AVSS2, 44 AIN2, 45 AVSS3, 46 AIN3, 47 AVSS, 48 CAPY1, 49 CAPY2, 50 AVDD, 51 REFOUT, 52 CML, 53 AVSS, 54 CAPC1, 55 CAPC2, 56 AVSS, 57 AVSS4, 58 AIN4, 59 AVSS5, 60 AIN5, 61 AVSS6, 62 AIN6, 63 AVSS, 64 ~{RES}, 65 ISO, 66 ALSB, 67 SDATA, 68 SCLK, 69 VREF/~{VRESET}, 70 HREF/~{HRESET}, 71 DVSS3, 72 DVDD3, 73 P19, 74 P18, 75 P17, 76 P16, 77 RD, 78 DV, 79 ~{OE}, 80 FIELD

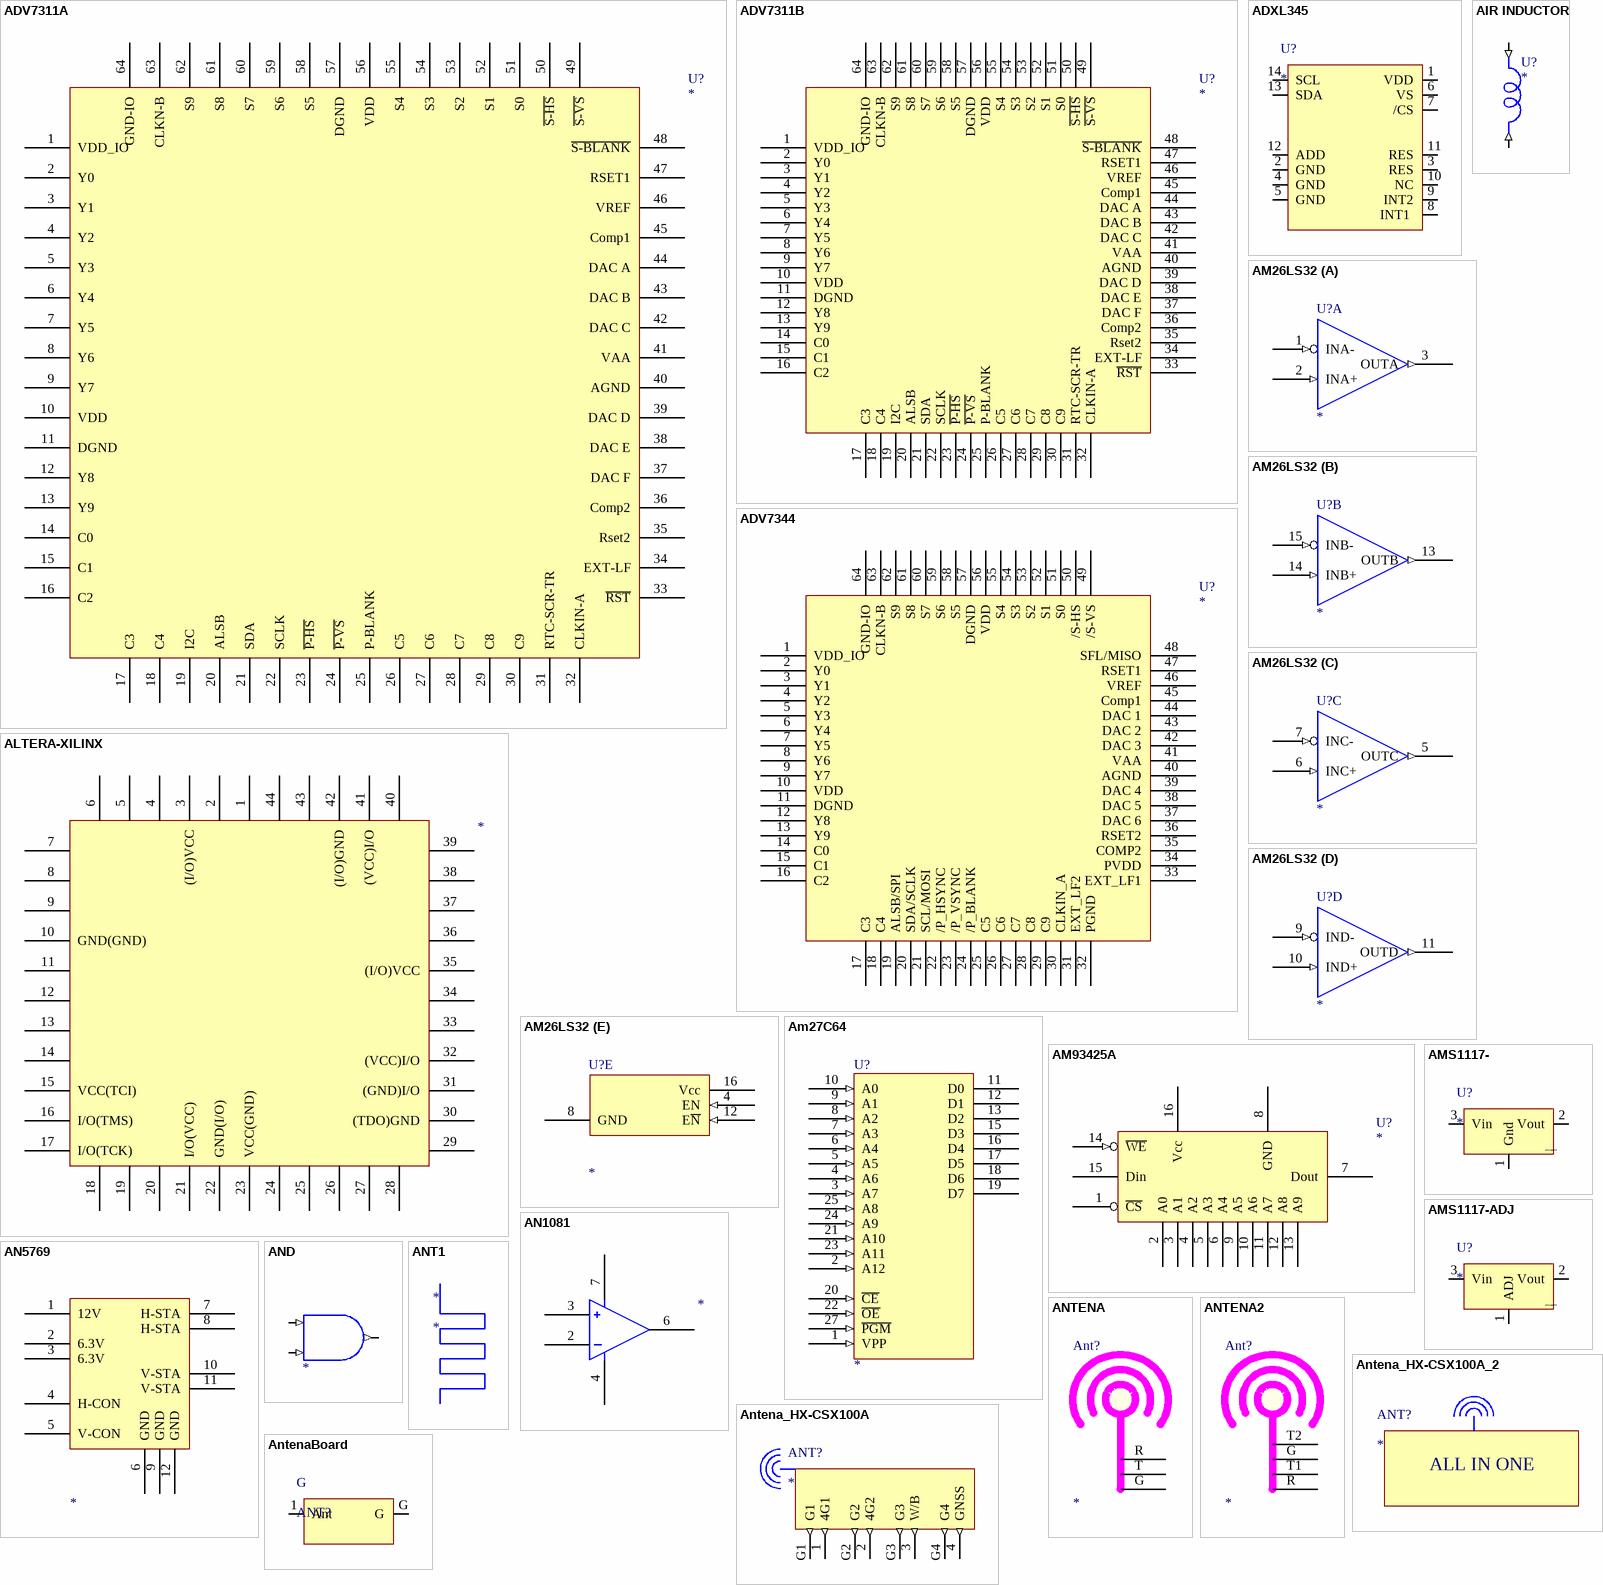
[diagram p13: symbols ADV7311A to AntenaBoard]

## ADV7311A
designator U?
U?
footprint ST-64B
pins: 1 VDD_IO, 2 Y0, 3 Y1, 4 Y2, 5 Y3, 6 Y4, 7 Y5, 8 Y6, 9 Y7, 10 VDD, 11 DGND, 12 Y8, 13 Y9, 14 C0, 15 C1, 16 C2, 17 C3, 18 C4, 19 I2C, 20 ALSB, 21 SDA, 22 SCLK, 23 ~{P-HS}, 24 ~{P-VS}, 25 P-BLANK, 26 C5, 27 C6, 28 C7, 29 C8, 30 C9, 31 RTC-SCR-TR, 32 CLKIN-A, 33 ~{RST}, 34 EXT-LF, 35 Rset2, 36 Comp2, 37 DAC F, 38 DAC E, 39 DAC D, 40 AGND, 41 VAA, 42 DAC C, 43 DAC B, 44 DAC A, 45 Comp1, 46 VREF, 47 RSET1, 48 ~{S-BLANK}, 49 ~{S-VS}, 50 ~{S-HS}, 51 S0, 52 S1, 53 S2, 54 S3, 55 S4, 56 VDD, 57 DGND, 58 S5, 59 S6, 60 S7, 61 S8, 62 S9, 63 CLKN-B, 64 GND-IO

## ADV7311B
designator U?
footprint ST-64B
pins: 1 VDD_IO, 2 Y0, 3 Y1, 4 Y2, 5 Y3, 6 Y4, 7 Y5, 8 Y6, 9 Y7, 10 VDD, 11 DGND, 12 Y8, 13 Y9, 14 C0, 15 C1, 16 C2, 17 C3, 18 C4, 19 I2C, 20 ALSB, 21 SDA, 22 SCLK, 23 ~{P-HS}, 24 ~{P-VS}, 25 P-BLANK, 26 C5, 27 C6, 28 C7, 29 C8, 30 C9, 31 RTC-SCR-TR, 32 CLKIN-A, 33 ~{RST}, 34 EXT-LF, 35 Rset2, 36 Comp2, 37 DAC F, 38 DAC E, 39 DAC D, 40 AGND, 41 VAA, 42 DAC C, 43 DAC B, 44 DAC A, 45 Comp1, 46 VREF, 47 RSET1, 48 ~{S-BLANK}, 49 ~{S-VS}, 50 ~{S-HS}, 51 S0, 52 S1, 53 S2, 54 S3, 55 S4, 56 VDD, 57 DGND, 58 S5, 59 S6, 60 S7, 61 S8, 62 S9, 63 CLKN-B, 64 GND-IO

## ADV7344
designator U?
footprint ST-64B
pins: 1 VDD_IO, 2 Y0, 3 Y1, 4 Y2, 5 Y3, 6 Y4, 7 Y5, 8 Y6, 9 Y7, 10 VDD, 11 DGND, 12 Y8, 13 Y9, 14 C0, 15 C1, 16 C2, 17 C3, 18 C4, 19 ALSB/SPI, 20 SDA/SCLK, 21 SCL/MOSI, 22 /P_HSYNC, 23 /P_VSYNC, 24 /P_BLANK, 25 C5, 26 C6, 27 C7, 28 C8, 29 C9, 30 CLKIN_A, 31 EXT_LF2, 32 PGND, 33 EXT_LF1, 34 PVDD, 35 COMP2, 36 RSET2, 37 DAC 6, 38 DAC 5, 39 DAC 4, 40 AGND, 41 VAA, 42 DAC 3, 43 DAC 2, 44 DAC 1, 45 Comp1, 46 VREF, 47 RSET1, 48 SFL/MISO, 49 /S-VS, 50 /S-HS, 51 S0, 52 S1, 53 S2, 54 S3, 55 S4, 56 VDD, 57 DGND, 58 S5, 59 S6, 60 S7, 61 S8, 62 S9, 63 CLKN-B, 64 GND-IO

## ADXL345
designator U?
footprint LGA14 (Footprint not found)
pins: 1 VDD, 2 GND, 3 RES, 4 GND, 5 GND, 6 VS, 7 /CS, 8 INT1 , 9 INT2, 10 NC, 11 RES, 12 ADD, 13 SDA, 14 SCL

## AIR INDUCTOR
designator U?
pins: 1 (in), 2 (in)

## ALTERA-XILINX
designator ?
pins: 1, 2, 3 (I/O)VCC, 4, 5, 6, 7, 8, 9, 10 GND(GND), 11, 12, 13, 14, 15 VCC(TCI), 16 I/O(TMS), 17 I/O(TCK), 18, 19, 20, 21 I/O(VCC), 22 GND(I/O), 23 VCC(GND), 24, 25, 26, 27, 28, 29, 30 (TDO)GND, 31 (GND)I/O, 32 (VCC)I/O, 33, 34, 35 (I/O)VCC, 36, 37, 38, 39, 40, 41 (VCC)I/O, 42 (I/O)GND, 43, 44

## AM26LS32
designator U?
footprint SO-16
part A pins: 1 INA- (in), 2 INA+ (in), 3 OUTA (out)
part B pins: 13 OUTB (out), 14 INB+ (in), 15 INB- (in)
part C pins: 5 OUTC (out), 6 INC+ (in), 7 INC- (in)
part D pins: 9 IND- (in), 10 IND+ (in), 11 OUTD (out)
part E pins: 4 EN (in), 8 GND (power), 12 E~{N} (in), 16 Vcc (power)

## Am27C64
designator U?
footprint DIP28
pins: 1 VPP (in), 2 A12 (in), 3 A7 (in), 4 A6 (in), 5 A5 (in), 6 A4 (in), 7 A3 (in), 8 A2 (in), 9 A1 (in), 10 A0 (in), 11 D0 (hiz), 12 D1 (hiz), 13 D2 (hiz), 14 GND (power) hidden to GND, 15 D3 (hiz), 16 D4 (hiz), 17 D5 (hiz), 18 D6 (hiz), 19 D7 (hiz), 20 ~{CE} (in), 21 A10 (in), 22 ~{OE} (in), 23 A11 (in), 24 A9 (in), 25 A8 (in), 27 ~{PGM} (in), 28 VCC (power) hidden to VCC

## AM93425A
designator U?
footprint DIP16
pins: 1 ~{CS}, 2 A0, 3 A1, 4 A2, 5 A3, 6 A4, 7 Dout, 8 GND, 9 A5, 10 A6, 11 A7, 12 A8, 13 A9, 14 ~{WE} (in), 15 Din, 16 Vcc

## AMS1117-
designator U?
footprint SOT-232
pins: 1 Gnd, 2 Vout, 3 Vin
text: @DesignPCB

## AMS1117-ADJ
designator U?
footprint SOT-232
pins: 1 ADJ, 2 Vout, 3 Vin
text: @DesignPCB

## AN1081
designator ?
pins: 2, 3, 4, 6, 7

## AN5769
designator ?
pins: 1 12V, 2 6.3V, 3 6.3V, 4 H-CON, 5 V-CON, 6 GND, 7 H-STA, 8 H-STA, 9 GND, 10 V-STA, 11 V-STA, 12 GND

## AND
designator ?
pins: 1 (in), 2 (in), 3 (out)

## ANT1
designator *

## ANTENA
designator Ant?
footprint ANTENAVR1
pins: G, R, T

## ANTENA2
designator Ant?
footprint ANTENAVR1
pins: G, R, T1, T2

## Antena_HX-CSX100A
designator ANT?
footprint Antena_HX-CSX100A
pins: 1 4G1 (out), 2 4G2 (out), 3 W/B (out), 4 GNSS (out), G1 (out), G2 (out), G3 (out), G4 (out)

## Antena_HX-CSX100A_2
designator ANT?
footprint Antena_HX-CSX100A
text: ALL IN ONE

## AntenaBoard
designator G, comment ANT?
footprint BLU-ANT (Footprint not found)
pins: 1 Ant, G

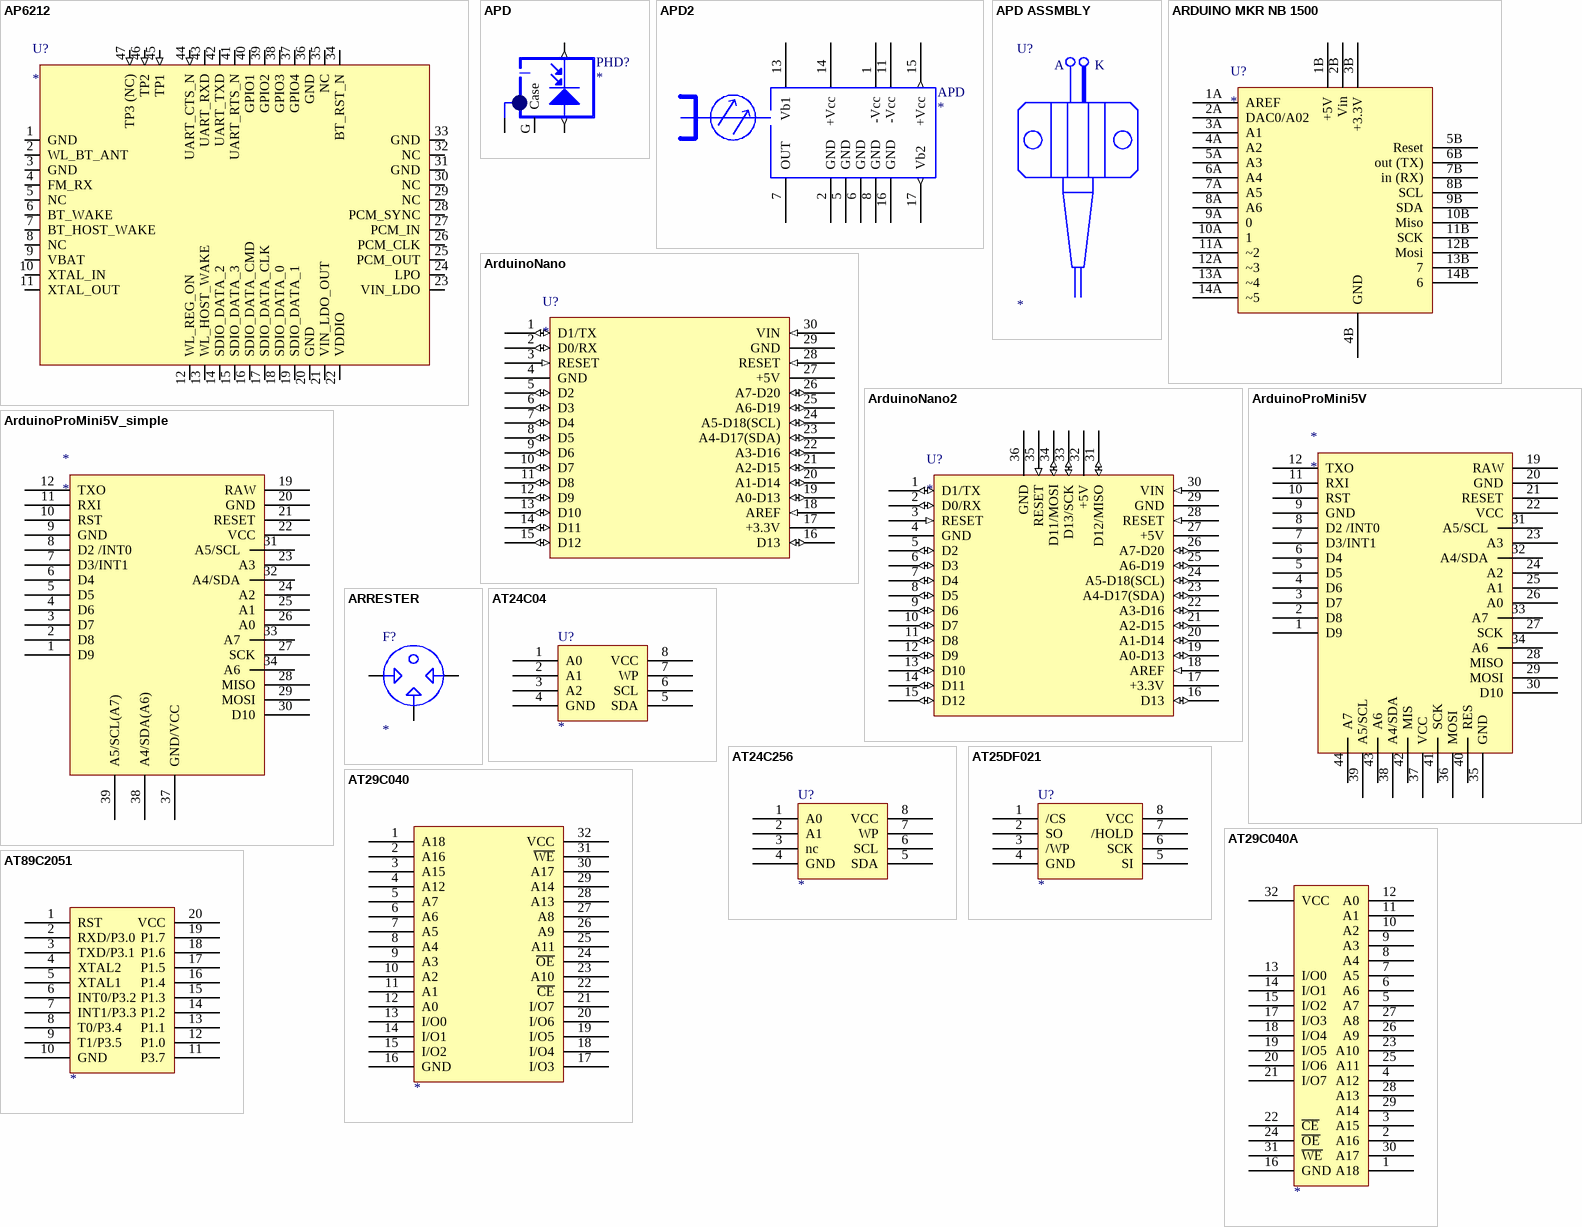
[diagram p14: symbols AP6212 to AT89C2051]

## AP6212
designator U?
footprint Module-AP6212
pins: 1 GND (power), 2 WL_BT_ANT (power), 3 GND (power), 4 FM_RX (power), 5 NC (power), 6 BT_WAKE (power), 7 BT_HOST_WAKE (power), 8 NC (power), 9 VBAT (power), 10 XTAL_IN (power), 11 XTAL_OUT (power), 12 WL_REG_ON (power), 13 WL_HOST_WAKE (power), 14 SDIO_DATA_2 (power), 15 SDIO_DATA_3 (power), 16 SDIO_DATA_CMD (power), 17 SDIO_DATA_CLK (power), 18 SDIO_DATA_0 (power), 19 SDIO_DATA_1 (power), 20 GND (power), 21 VIN_LDO_OUT (power), 22 VDDIO (power), 23 VIN_LDO (power), 24 LPO (power), 25 PCM_OUT (power), 26 PCM_CLK (power), 27 PCM_IN (power), 28 PCM_SYNC (power), 29 NC (power), 30 NC (power), 31 GND (power), 32 NC (power), 33 GND (power), 34 BT_RST_N (power), 35 NC (power), 36 GND (power), 37 GPIO4 (power), 38 GPIO3 (power), 39 GPIO2 (power), 40 GPIO1 (power), 41 UART_RTS_N (power), 42 UART_TXD (power), 43 UART_RXD (power), 44 UART_CTS_N (in), 45 TP1 (in), 46 TP2 (in), 47 TP3 (NC) (in)

## APD
designator PHD?
pins: A (out), G Case, G1 G, K (out)

## APD2
designator APD
pins: 1 -Vcc, 2 GND, 5 GND, 6 GND, 7 OUT, 8 GND, 11 -Vcc, 13 Vb1, 14 +Vcc, 15 +Vcc (out), 16 GND, 17 Vb2 (out)

## APD ASSMBLY
designator U?
text: A; K

## ARDUINO MKR NB 1500
designator U?
footprint ARDUINO-MKR-NB-1500
pins: 1A AREF, 1B +5V, 2A DAC0/A02, 2B Vin, 3A A1, 3B +3.3V, 4A A2, 4B GND, 5A A3, 5B Reset, 6A A4, 6B out (TX), 7A A5, 7B in (RX), 8A A6, 8B SCL, 9A 0, 9B SDA, 10A 1, 10B Miso, 11A ~2, 11B SCK, 12A ~3, 12B Mosi, 13A ~4, 13B 7, 14A ~5, 14B 6

## ArduinoNano
designator U?
footprint ARDUINONANO
footprint ArduinoNano
footprint ArduinoNano
pins: 1 D1/TX (io), 2 D0/RX (io), 3 RESET (in), 4 GND (power), 5 D2 (io), 6 D3 (io), 7 D4 (io), 8 D5 (io), 9 D6 (io), 10 D7 (io), 11 D8 (io), 12 D9 (io), 13 D10 (io), 14 D11 (io), 15 D12 (io), 16 D13 (io), 17 +3.3V (power), 18 AREF (in), 19 A0-D13 (io), 20 A1-D14 (io), 21 A2-D15 (io), 22 A3-D16 (io), 23 A4-D17(SDA) (io), 24 A5-D18(SCL) (io), 25 A6-D19 (io), 26 A7-D20 (io), 27 +5V (power), 28 RESET (in), 29 GND (power), 30 VIN (in)

## ArduinoNano2
designator U?
footprint ARDUINONANO
footprint ArduinoNano2
pins: 1 D1/TX (io), 2 D0/RX (io), 3 RESET (in), 4 GND (power), 5 D2 (io), 6 D3 (io), 7 D4 (io), 8 D5 (io), 9 D6 (io), 10 D7 (io), 11 D8 (io), 12 D9 (io), 13 D10 (io), 14 D11 (io), 15 D12 (io), 16 D13 (io), 17 +3.3V (power), 18 AREF (in), 19 A0-D13 (io), 20 A1-D14 (io), 21 A2-D15 (io), 22 A3-D16 (io), 23 A4-D17(SDA) (io), 24 A5-D18(SCL) (io), 25 A6-D19 (io), 26 A7-D20 (io), 27 +5V (power), 28 RESET (in), 29 GND (power), 30 VIN (in), 31 D12/MISO (io), 32 +5V, 33 D13/SCK (io), 34 D11/MOSI (io), 35 RESET (in), 36 GND (power)

## ArduinoProMini5V
designator *
footprint ArduinoProMini5V
pins: 1 D9, 2 D8, 3 D7, 4 D6, 5 D5, 6 D4, 7 D3/INT1, 8 D2 /INT0, 9 GND, 10 RST, 11 RXI, 12 TXO, 19 RAW, 20 GND, 21 RESET, 22 VCC, 23 A3, 24 A2, 25 A1, 26 A0, 27 SCK, 28 MISO, 29 MOSI, 30 D10, 31 A5/SCL, 32 A4/SDA, 33 A7, 34 A6, 35 GND, 36 MOSI, 37 VCC, 38 A4/SDA, 39 A5/SCL, 40 RES, 41 SCK, 42 MIS, 43 A6, 44 A7

## ArduinoProMini5V_simple
designator *
footprint ArduinoProMini5V
pins: 1 D9, 2 D8, 3 D7, 4 D6, 5 D5, 6 D4, 7 D3/INT1, 8 D2 /INT0, 9 GND, 10 RST, 11 RXI, 12 TXO, 19 RAW, 20 GND, 21 RESET, 22 VCC, 23 A3, 24 A2, 25 A1, 26 A0, 27 SCK, 28 MISO, 29 MOSI, 30 D10, 31 A5/SCL, 32 A4/SDA, 33 A7, 34 A6, 37 GND/VCC, 38 A4/SDA(A6), 39 A5/SCL(A7)

## ARRESTER
designator F?
pins: A, B, GND

## AT24C04
designator U?
footprint SO-8
pins: 1 A0, 2 A1, 3 A2, 4 GND, 5 SDA, 6 SCL, 7 WP, 8 VCC

## AT24C256
designator U?
footprint DIP8
pins: 1 A0, 2 A1, 3 nc, 4 GND, 5 SDA, 6 SCL, 7 WP, 8 VCC

## AT25DF021
designator U?
footprint SO-8
pins: 1 /CS, 2 SO, 3 /WP, 4 GND, 5 SI, 6 SCK, 7 /HOLD, 8 VCC

## AT29C040
designator ?
pins: 1 A18, 2 A16, 3 A15, 4 A12, 5 A7, 6 A6, 7 A5, 8 A4, 9 A3, 10 A2, 11 A1, 12 A0, 13 I/O0, 14 I/O1, 15 I/O2, 16 GND, 17 I/O3, 18 I/O4, 19 I/O5, 20 I/O6, 21 I/O7, 22 ~{CE}, 23 A10, 24 ~{OE}, 25 A11, 26 A9, 27 A8, 28 A13, 29 A14, 30 A17, 31 ~{WE}, 32 VCC